# Altium schematic symbol library Connectors_Old.SchLib: 239 symbols (part 1 of 4)
Pins are listed as number, name and electrical type; pins without a type are passive.

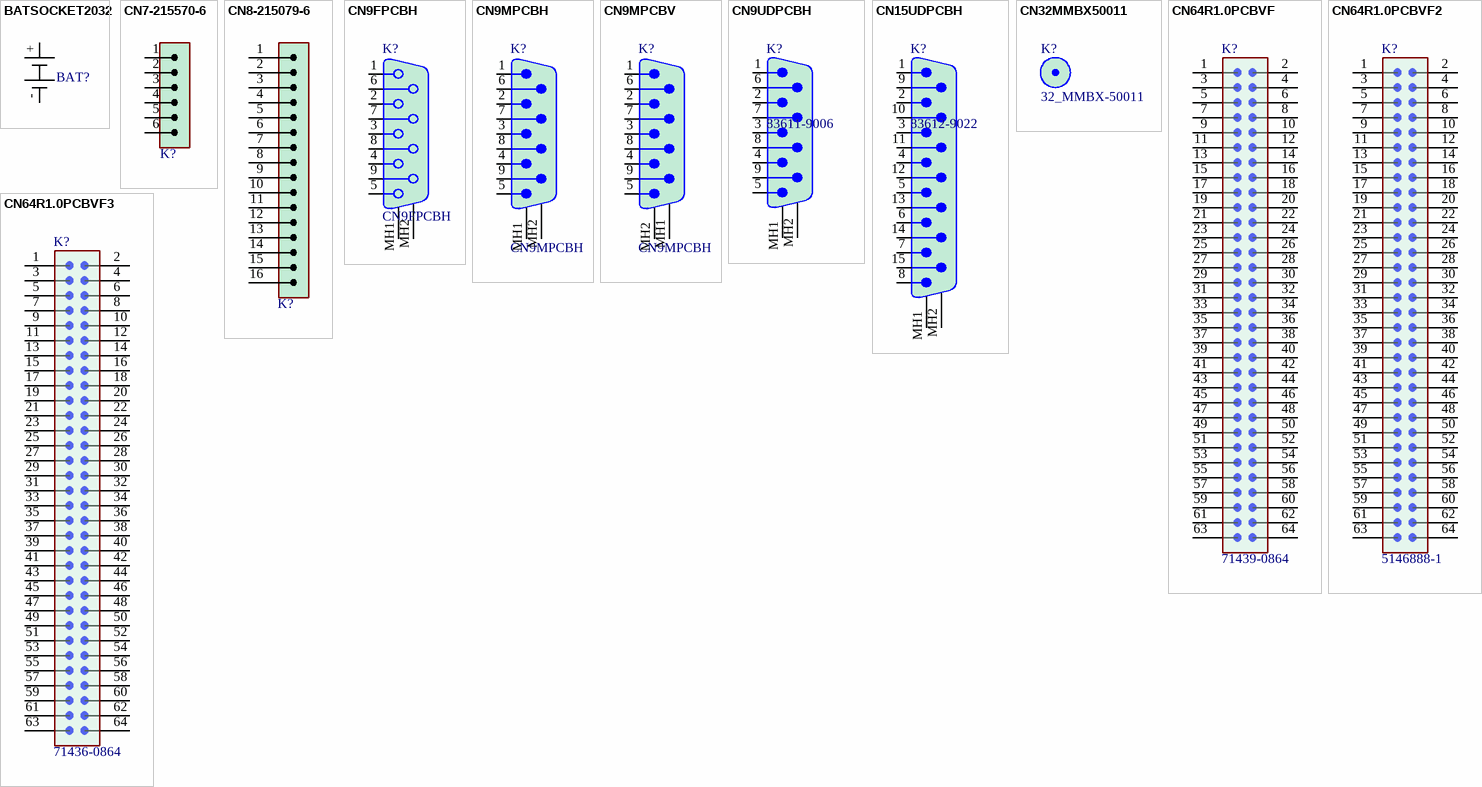
[diagram p0: symbols BATSOCKET2032 to CN64R1.0PCBVF3]

## BATSOCKET2032
designator BAT?, comment CR2032  (value not drawn)
Battery socket CR2032 3V lithium; Sort: 610; Tech: THDW; Price: 0
footprint BATHOLDER20321X
pins: +, -

## CN7-215570-6
designator K?, comment 7-215570-6  (value not drawn)
Micro Match 6pin female connector; Manufacturer: Tyco-AMP; Sort: 610; Tech: THDW; Package: Conn uMATCH 6pin; Manufacturer No: 7-215570-6; Price: 0
footprint CN7-215570-6 (AMP u Match 6pin vertical female)
pins: 1, 2, 3, 4, 5, 6

## CN8-215079-6
designator K?, comment 8-215079-6  (value not drawn)
Micro Match 16pin cable connector; Manufacturer: Tyco-AMP; Sort: 610; Tech: THDW; Package: Conn uMATCH 16pin; Manufacturer No: 8-215079-6; Price: 0
footprint CN8-215079-6 (AMP u Match 16pin vertical cable)
pins: 1, 2, 3, 4, 5, 6, 7, 8, 9, 10, 11, 12, 13, 14, 15, 16

## CN9FPCBH
designator K?
Sort: 610; Tech: THDW; Price: 0
footprint D9FPCBH1 (Dsub 9pin female PCB horizontal)
pins: 1, 2, 3, 4, 5, 6, 7, 8, 9, MH1, MH2

## CN9MPCBH
designator K?
Sort: 610; Tech: THDW; Price: 0
footprint D9MPCBH1 (Dsub 9pin male PCB horizontal)
pins: 1, 2, 3, 4, 5, 6, 7, 8, 9, MH1, MH2

## CN9MPCBV
designator K?, comment CN9MPCBH
Sort: 610; Tech: THDW; Price: 0
footprint D9MPCBV1 (Dsub 9pin male PCB vertical)
pins: 1, 2, 3, 4, 5, 6, 7, 8, 9, MH1, MH2

## CN9UDPCBH
designator K?, comment 83611-9006
Connector 9pin micro-D; Manufacturer: Molex; Sort: 610; Tech: THDW; Manufacturer No: 83611-9006; Price: 0
signal-integrity model Model Name (Model Description)
footprint CN9UDPCBH (Connector LXI Horizontal, THDM; 9 pin; R1.27 mm; Body 19.94 x 15.13 x 7.86 mm (LxWxH))
pins: 1, 2, 3, 4, 5, 6, 7, 8, 9, MH1, MH2

## CN15UDPCBH
designator K?, comment 83612-9022
Connector 15 pin micro-D; Manufacturer: Molex; Sort: 610; Tech: THDW; Manufacturer No: 83612-9022; Price: 0
signal-integrity model Model Name (Model Description)
footprint CN15UDPCBH (Connector LXI Horizontal, THDM; 9 pin; R1.27 mm; Body 19.94 x 15.13 x 7.86 mm (LxWxH))
pins: 1, 2, 3, 4, 5, 6, 7, 8, 9, 10, 11, 12, 13, 14, 15, MH1, MH2

## CN32MMBX50011
designator K?, comment 32_MMBX-50011
MMBX connector adaptor PCB vertical H7mm; Manufacturer: Huber+Suhner; Comment2: 7mm high; Sort: 610; Tech: SMD; Manufacturer No: 32_MMBX-50011; Package: CN MMBX PCB Vert; Price: 0

## CN64R1.0PCBVF
designator K?, comment 71439-0864
Connector 64 pin SMD R1.0mm female; Manufacturer: Molex; Sort: 610; Tech: SMDR; Manufacturer No: 71439-0864; Package: CN64pin SMD R1mm Vert; Price: 0
signal-integrity model Model Name (Model Description)
footprint CN64R1FV (71439-0864)
pins: 1, 2, 3, 4, 5, 6, 7, 8, 9, 10, 11, 12, 13, 14, 15, 16, 17, 18, 19, 20, 21, 22, 23, 24, 25, 26, 27, 28, 29, 30, 31, 32, 33, 34, 35, 36, 37, 38, 39, 40, 41, 42, 43, 44, 45, 46, 47, 48, 49, 50, 51, 52, 53, 54, 55, 56, 57, 58, 59, 60, 61, 62, 63, 64

## CN64R1.0PCBVF2
designator K?, comment 5146888-1
Connector 64 pin SMD R1.0mm male; Manufacturer: Tyco; Sort: 610; Tech: SMDR; Manufacturer No: 5146888-1; Package: CN64pin SMD R1mm Vert; Price: 0
signal-integrity model Model Name (Model Description)
footprint CN64R1MV (Connector 64 pin R1.0 pitch plug)
pins: 1, 2, 3, 4, 5, 6, 7, 8, 9, 10, 11, 12, 13, 14, 15, 16, 17, 18, 19, 20, 21, 22, 23, 24, 25, 26, 27, 28, 29, 30, 31, 32, 33, 34, 35, 36, 37, 38, 39, 40, 41, 42, 43, 44, 45, 46, 47, 48, 49, 50, 51, 52, 53, 54, 55, 56, 57, 58, 59, 60, 61, 62, 63, 64

## CN64R1.0PCBVF3
designator K?, comment 71436-0864
Connector 64 pin SMD R1.0mm male; Manufacturer: Molex; Sort: 610; Tech: SMDR; Manufacturer No: 71436-0864; Package: CN64pin SMD R1mm Vert; Price: 0
signal-integrity model Model Name (Model Description)
footprint CN64R1MV (Connector 64 pin R1.0 pitch plug)
pins: 1, 2, 3, 4, 5, 6, 7, 8, 9, 10, 11, 12, 13, 14, 15, 16, 17, 18, 19, 20, 21, 22, 23, 24, 25, 26, 27, 28, 29, 30, 31, 32, 33, 34, 35, 36, 37, 38, 39, 40, 41, 42, 43, 44, 45, 46, 47, 48, 49, 50, 51, 52, 53, 54, 55, 56, 57, 58, 59, 60, 61, 62, 63, 64

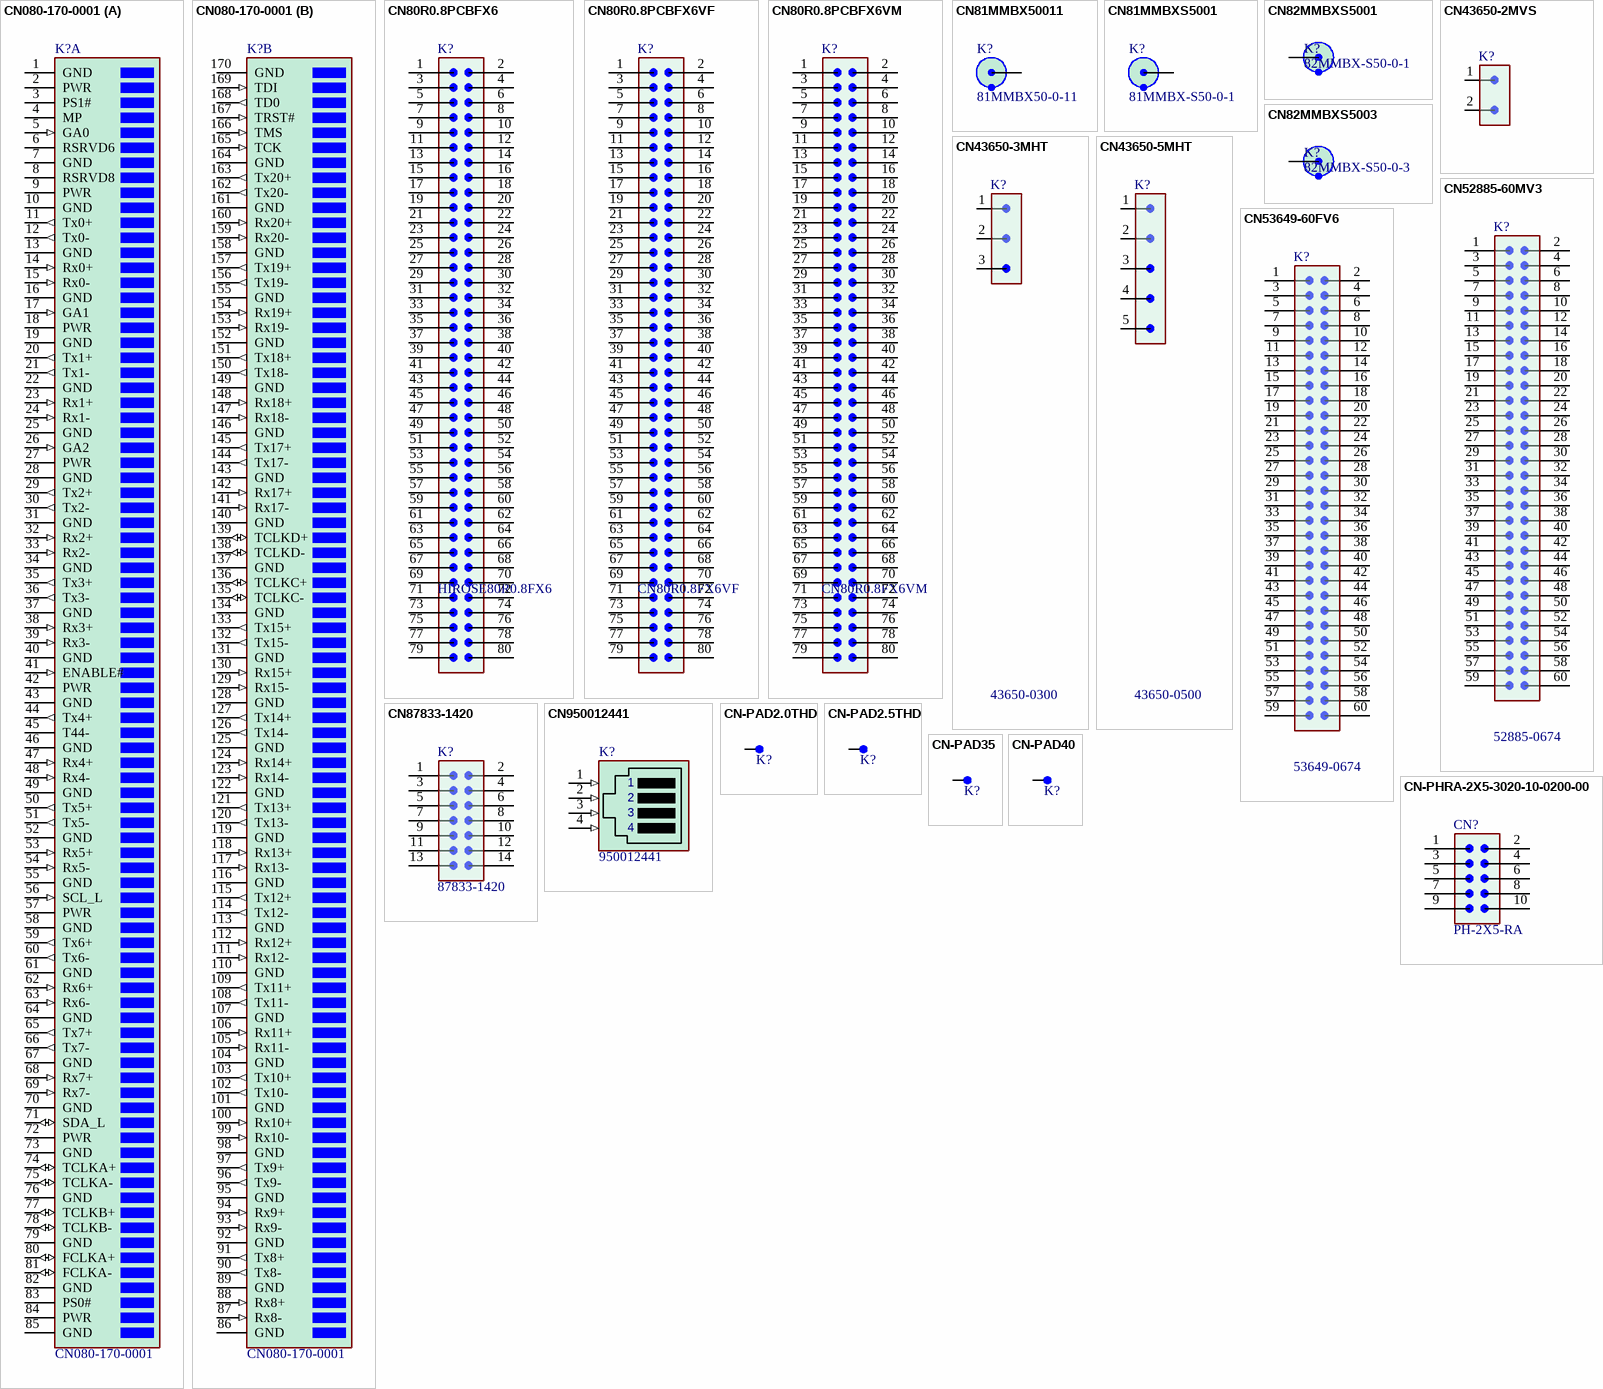
[diagram p1: symbols CN080-170-0001 to CN-PHRA-2X5-3020-10-0200-00]

## CN080-170-0001
designator K?
AMC Card connector 170 pin female vertical; Manufacturer: Yamaichi; Sort: 610; Tech: THDM; Manufacturer No: CN080-170-0001; Package: CNAMC170FV1; Price: 0
signal-integrity model Model Name (Model Description)
part A pins: 1 GND (power), 2 PWR (power) "12V", 3 PS1# "presence1", 4 MP (power) "3V3", 5 GA0 (in) "Gaddr0", 6 RSRVD6 "reserved", 7 GND (power), 8 RSRVD8 "reserved", 9 PWR (power) "12V", 10 GND (power), 11 Tx0+ (out) "out0", 12 Tx0- (out) "out0", 13 GND (power), 14 Rx0+ (in) "in0", 15 Rx0- (in) "in0", 16 GND (power), 17 GA1 (in) "Gaddr1", 18 PWR (power) "12V", 19 GND (power), 20 Tx1+ (out) "out1", 21 Tx1- (out) "out1", 22 GND (power), 23 Rx1+ (in) "in1", 24 Rx1- (in) "in1", 25 GND (power), 26 GA2 (in) "Gaddr2", 27 PWR (power) "12V", 28 GND (power), 29 Tx2+ (out) "out2", 30 Tx2- (out) "out2", 31 GND (power), 32 Rx2+ (in) "in2", 33 Rx2- (in) "in2", 34 GND (power), 35 Tx3+ (out) "out3", 36 Tx3- (out) "out3", 37 GND (power), 38 Rx3+ (in) "in3", 39 Rx3- (in) "in3", 40 GND (power), 41 ENABLE# (in) "AMC enable", 42 PWR (power) "12V", 43 GND (power), 44 Tx4+ (out) "out4", 45 T44- "out4", 46 GND (power), 47 Rx4+ (in) "in4", 48 Rx4- (in) "in4", 49 GND (power), 50 Tx5+ (out) "out5", 51 Tx5- (out) "out5", 52 GND (power), 53 Rx5+ (in) "in5", 54 Rx5- (in) "in5", 55 GND (power), 56 SCL_L (in) "IPMB clock", 57 PWR (power) "12V", 58 GND (power), 59 Tx6+ (out) "out6", 60 Tx6- (out) "out6", 61 GND (power), 62 Rx6+ (in) "in6", 63 Rx6- (in) "in6", 64 GND (power), 65 Tx7+ (out) "out7", 66 Tx7- (out) "out7", 67 GND (power), 68 Rx7+ (in) "in7", 69 Rx7- (in) "in7", 70 GND (power), 71 SDA_L (io) "IPMB data", 72 PWR (power) "12V", 73 GND (power), 74 TCLKA+ (io) "clk", 75 TCLKA- (io) "clk", 76 GND (power), 77 TCLKB+ (io) "clk", 78 TCLKB- (io) "clk", 79 GND (power), 80 FCLKA+ (io) "clk", 81 FCLKA- (io) "clk", 82 GND (power), 83 PS0# "presence0", 84 PWR (power) "12V", 85 GND (power)
part B pins: 86 GND (power), 87 Rx8- (in) "in8", 88 Rx8+ (in) "in8", 89 GND (power), 90 Tx8- (out) "out8", 91 Tx8+ (out) "out8", 92 GND (power), 93 Rx9- (in) "in9", 94 Rx9+ (in) "in9", 95 GND (power), 96 Tx9- (out) "out9", 97 Tx9+ (out) "out9", 98 GND (power), 99 Rx10- (in) "in10", 100 Rx10+ (in) "in10", 101 GND (power), 102 Tx10- (out) "out10", 103 Tx10+ (out) "out10", 104 GND (power), 105 Rx11- (in) "in11", 106 Rx11+ (in) "in11", 107 GND (power), 108 Tx11- (out) "out11", 109 Tx11+ (out) "out11", 110 GND (power), 111 Rx12- (in) "in12", 112 Rx12+ (in) "in12", 113 GND (power), 114 Tx12- (out) "out12", 115 Tx12+ (out) "out12", 116 GND (power), 117 Rx13- (in) "in13", 118 Rx13+ (in) "in13", 119 GND (power), 120 Tx13- (out) "out13", 121 Tx13+ (out) "out13", 122 GND (power), 123 Rx14- (in) "in14", 124 Rx14+ (in) "in14", 125 GND (power), 126 Tx14- (out) "out14", 127 Tx14+ (out) "out14", 128 GND (power), 129 Rx15- (in) "in15", 130 Rx15+ (in) "in15", 131 GND (power), 132 Tx15- (out) "out15", 133 Tx15+ (out) "out15", 134 GND (power), 135 TCLKC- (io) "clk", 136 TCLKC+ (io) "clk", 137 GND (power), 138 TCLKD- (io) "clk", 139 TCLKD+ (io) "clk", 140 GND (power), 141 Rx17- (in) "in17", 142 Rx17+ (in) "in17", 143 GND (power), 144 Tx17- (out) "out17", 145 Tx17+ (out) "out17", 146 GND (power), 147 Rx18- (in) "in18", 148 Rx18+ (in) "in18", 149 GND (power), 150 Tx18- (out) "out18", 151 Tx18+ (out) "out18", 152 GND (power), 153 Rx19- (in) "in19", 154 Rx19+ (in) "in19", 155 GND (power), 156 Tx19- (out) "out19", 157 Tx19+ (out) "out19", 158 GND (power), 159 Rx20- (in) "in20", 160 Rx20+ (in) "in20", 161 GND (power), 162 Tx20- (out) "out20", 163 Tx20+ (out) "out20", 164 GND (power), 165 TCK (in) "in", 166 TMS (in) "in", 167 TRST# (in) "in", 168 TD0 (out) "out", 169 TDI (in) "in", 170 GND (power)

## CN80R0.8PCBFX6
designator K?, comment HIROSE80R0.8FX6
Hirose Connector 80 pin SMD R0.8mm female; Sort: 610; Tech: SMDR; Manufacturer: HIROSE; Price: 0
signal-integrity model Model Name (Model Description)
footprint HiroseFX-6 (0.8mm Pitch Stacking Height 9mm Header-Stacking Connector)
pins: 1, 2, 3, 4, 5, 6, 7, 8, 9, 10, 11, 12, 13, 14, 15, 16, 17, 18, 19, 20, 21, 22, 23, 24, 25, 26, 27, 28, 29, 30, 31, 32, 33, 34, 35, 36, 37, 38, 39, 40, 41, 42, 43, 44, 45, 46, 47, 48, 49, 50, 51, 52, 53, 54, 55, 56, 57, 58, 59, 60, 61, 62, 63, 64, 65, 66, 67, 68, 69, 70, 71, 72, 73, 74, 75, 76, 77, 78, 79, 80

## CN80R0.8PCBFX6VF
designator K?, comment CN80R0.8FX6VF
Hirose Connector 80 pin SMD R0.8mm male; Manufacturer No: FX6- 80P-0.8SV2(21); Comment2: 0.8R  H6mm; Sort: 610; Tech: SMDR; Manufacturer: HIROSE; Price: 0
signal-integrity model Model Name (Model Description)
footprint CN80R0.8PCBFX6VF (0.8mm Pitch Stacking Height 6mm Header-Stacking Connector female)
pins: 1, 2, 3, 4, 5, 6, 7, 8, 9, 10, 11, 12, 13, 14, 15, 16, 17, 18, 19, 20, 21, 22, 23, 24, 25, 26, 27, 28, 29, 30, 31, 32, 33, 34, 35, 36, 37, 38, 39, 40, 41, 42, 43, 44, 45, 46, 47, 48, 49, 50, 51, 52, 53, 54, 55, 56, 57, 58, 59, 60, 61, 62, 63, 64, 65, 66, 67, 68, 69, 70, 71, 72, 73, 74, 75, 76, 77, 78, 79, 80

## CN80R0.8PCBFX6VM
designator K?, comment CN80R0.8FX6VM
Hirose Connector 80 pin SMD R0.8mm male; Manufacturer No: FX6- 80S-0.8SV2(21); Comment2: 0.8R  H6mm; Sort: 610; Tech: SMDR; Manufacturer: HIROSE; Price: 0
signal-integrity model Model Name (Model Description)
footprint CN80R0.8PCBFX6VM (0.8mm Pitch Stacking Height 6mm Receptacle-Stacking Connector male)
pins: 1, 2, 3, 4, 5, 6, 7, 8, 9, 10, 11, 12, 13, 14, 15, 16, 17, 18, 19, 20, 21, 22, 23, 24, 25, 26, 27, 28, 29, 30, 31, 32, 33, 34, 35, 36, 37, 38, 39, 40, 41, 42, 43, 44, 45, 46, 47, 48, 49, 50, 51, 52, 53, 54, 55, 56, 57, 58, 59, 60, 61, 62, 63, 64, 65, 66, 67, 68, 69, 70, 71, 72, 73, 74, 75, 76, 77, 78, 79, 80

## CN81MMBX50011
designator K?, comment 81MMBX50-0-11
MMBX connector PCB vertical R5mm; Manufacturer: Huber+Suhner; Manufacturer No: 81_MMBX-50-0-11; Comment2: 9mm above PCB; Sort: 610; Tech: THDW; Package: CN MMBX PCB Vert; Price: 0
footprint 81_MMBX-50-0-11
pins: 1, 2, 3, 4, 5

## CN81MMBXS5001
designator K?, comment 81MMBX-S50-0-1
MMBX connector PCB vertical R5mm; Manufacturer: Huber+Suhner; Manufacturer No: 81_MMBX-50-0-1; Comment2: 6.1mm above PCB; Sort: 610; Tech: SMD; Package: CN MMBX PCB Vert; Price: 0
footprint 81_MMBX-S50-0-1 (MMBX connector, PCB plug (male), SMD)
pins: 1, 2, 3, 4, 5

## CN82MMBXS5001
designator K?, comment 82MMBX-S50-0-1  (no BOM)
MMBX connector PCB vertical R5mm; Manufacturer: Huber+Suhner; Manufacturer No: 82_MMBX-50-0-1; Comment2: 9.0mm above PCB; Sort: 610; Tech: SMD; Package: CN MMBX PCB Vert; Price: 0
footprint 82_MMBX-S50-0-1 (MMBX connector, PCB plug (female), SMD)
pins: 1, 2, 3, 4, 5

## CN82MMBXS5003
designator K?, comment 82MMBX-S50-0-3  (no BOM)
MMBX connector PCB vertical R5mm; Manufacturer: Huber+Suhner; Manufacturer No: 82_MMBX-50-0-3; Comment2: 9.0mm above PCB; Sort: 610; Tech: SMD; Package: CN MMBX PCB Vert; Price: 0
footprint 82_MMBX-S50-0-3 (MMBX connector, PCB plug (male), SMD)
pins: 1, 2, 3, 4, 5

## CN43650-2MVS
designator K?, comment 43650-0225
Connector 2 pin SMD R3.0mm male vertical; Manufacturer: Molex, Digikey; Manufacturer No: 43650-0225, WM2638CT-ND; Comment2: 250V 5A 30cyc; Sort: 610; Tech: SMDR; Package: CN2pin SMD R3.0; Price: 0
signal-integrity model Model Name (Model Description)
footprint CN43650-0225 (CN 2 pin Male vertical SMD)
pins: 1, 2

## CN43650-3MHT
designator K?, comment 43650-0300
Connector 3 pin THT R3.0mm male horizontal; Manufacturer: Molex, Digikey; Manufacturer No: 43650-0300, WM1861-ND; Comment2: 250V 5A  30cyc; Sort: 610; Tech: SMDR; Package: CN3pin SMD R3.0 hor; Price: 1,4
signal-integrity model Model Name (Model Description)
footprint CN43650-0300 (CN 3 pin Male horizontal THT R3.0)
pins: 1, 2, 3
1 alternate drawing of the same symbol

## CN43650-5MHT
designator K?, comment 43650-0500
Connector 5 pin THT R3.0mm male horizontal; Manufacturer: Molex, Digikey; Manufacturer No: 43650-0500, WM1863-ND; Comment2: 250V 5A  30cyc; Sort: 610; Tech: SMDR; Package: CN5pin SMD R3.0 HOR; Price: 1,8
signal-integrity model Model Name (Model Description)
footprint CN43650-0500 (CN 5 pin Male horizontal THT R3.0)
pins: 1, 2, 3, 4, 5
1 alternate drawing of the same symbol

## CN52885-60MV3
designator K?, comment 52885-0674
Connector 60 pin SMD R0.635mm male vertical; Manufacturer: Molex; Sort: 610; Tech: SMDR; Manufacturer No: 52885-0674; Package: CN60pin SMD R0.635m Vert; Price: 0
signal-integrity model Model Name (Model Description)
footprint CN52885-60MV3 (Molex 52885 60pin vertical male 3mm R0.635mm)
pins: 1, 2, 3, 4, 5, 6, 7, 8, 9, 10, 11, 12, 13, 14, 15, 16, 17, 18, 19, 20, 21, 22, 23, 24, 25, 26, 27, 28, 29, 30, 31, 32, 33, 34, 35, 36, 37, 38, 39, 40, 41, 42, 43, 44, 45, 46, 47, 48, 49, 50, 51, 52, 53, 54, 55, 56, 57, 58, 59, 60

## CN53649-60FV6
designator K?, comment 53649-0674
Connector 60 pin SMD R0.635mm female vertical; Manufacturer: Molex; Sort: 610; Tech: SMDR; Manufacturer No: 53649-0674; Package: CN60pin SMD R0.635m Vert; Price: 0
signal-integrity model Model Name (Model Description)
footprint CN53649-60FV6 (Molex 53649 60pin vertical male H6mm R0.635mm)
pins: 1, 2, 3, 4, 5, 6, 7, 8, 9, 10, 11, 12, 13, 14, 15, 16, 17, 18, 19, 20, 21, 22, 23, 24, 25, 26, 27, 28, 29, 30, 31, 32, 33, 34, 35, 36, 37, 38, 39, 40, 41, 42, 43, 44, 45, 46, 47, 48, 49, 50, 51, 52, 53, 54, 55, 56, 57, 58, 59, 60

## CN87833-1420
designator K?, comment 87833-1420
Connector IDC 14 pin R2mm low profile horizontal; Manufacturer: Molex, Mouser; Manufacturer No: 87833-1420, 538-87833-1420; Sort: 610; Tech: THDW; Package: CN IDC14p HOR R2mm; Price: 2.2
signal-integrity model Model Name (Model Description)
footprint CN87833-1420 (Connector Male Header, Thru-Hole; 14 pin; Horizontal; R2mm; Body 16.65 x 6.4 x 6.3 mm (LxWxH))
pins: 1, 2, 3, 4, 5, 6, 7, 8, 9, 10, 11, 12, 13, 14
1 alternate drawing of the same symbol

## CN950012441
designator K?, comment 950012441
RJ45 modular jack included magnetics 10/100 Base-Tx; Manufacturer: Molex; Comment2: RJ11 4/4 pin; Sort: 610; Tech: THDW; Manufacturer No: 950012441; Price: 0
footprint CN95001-2441 (Molex 950012441)
pins: 1 (in), 2 (in), 3 (in), 4 (in)

## CN-PAD2.0THD
designator K?, comment PADTHDW  (value not drawn)  (no BOM)
Solder connector pin 2.0mm; Sort: 610; Tech: THDW; Price: 0
footprint CN-PAD2.0THD (Connector pad 2.0mm ThroughHole)
pins: MH1

## CN-PAD2.5THD
designator K?, comment PADTHDW  (value not drawn)  (no BOM)
Solder connector pin 2.5mm; Sort: 610; Tech: THDW; Price: 0
footprint CN-PAD2.5THD (Connector pad 2.5mm ThroughHole)
pins: MH1

## CN-PAD35
designator K?, comment PadSmd  (value not drawn)  (no BOM)
Solder connector pin 0.9mm; Sort: 610; Tech: THDW; Price: 0
footprint CN-PAD35 (Connector pad 0.9mm)
pins: 1

## CN-PAD40
designator K?, comment PadSmd  (value not drawn)  (graphical)
Solder connector pin 1.0mm; Sort: 610; Tech: THDW; Price: 0
footprint CN-PAD40 (Connector pad 1.0mm)
pins: 1

## CN-PHRA-2X5-3020-10-0200-00
designator CN?, comment PH-2X5-RA
PIN HEADER 2x5 R2.54mm Right-Angle; Manufacturer: CNC Tech; Manufacturer No: 3020-10-0200-00; Comment2: 350V 3A 20mR; Sort: 610; Tech: THDW; Package: HDR 2x5 vert; Price: 0.61; Supplier: Digi-Key; Supplier No: 1175-1615-ND
signal-integrity model Model Name (Model Description)
footprint PINHDR2X5RA (Pin header 2x5 pin R2.54mm)
pins: 1, 2, 3, 4, 5, 6, 7, 8, 9, 10
1 alternate drawing of the same symbol

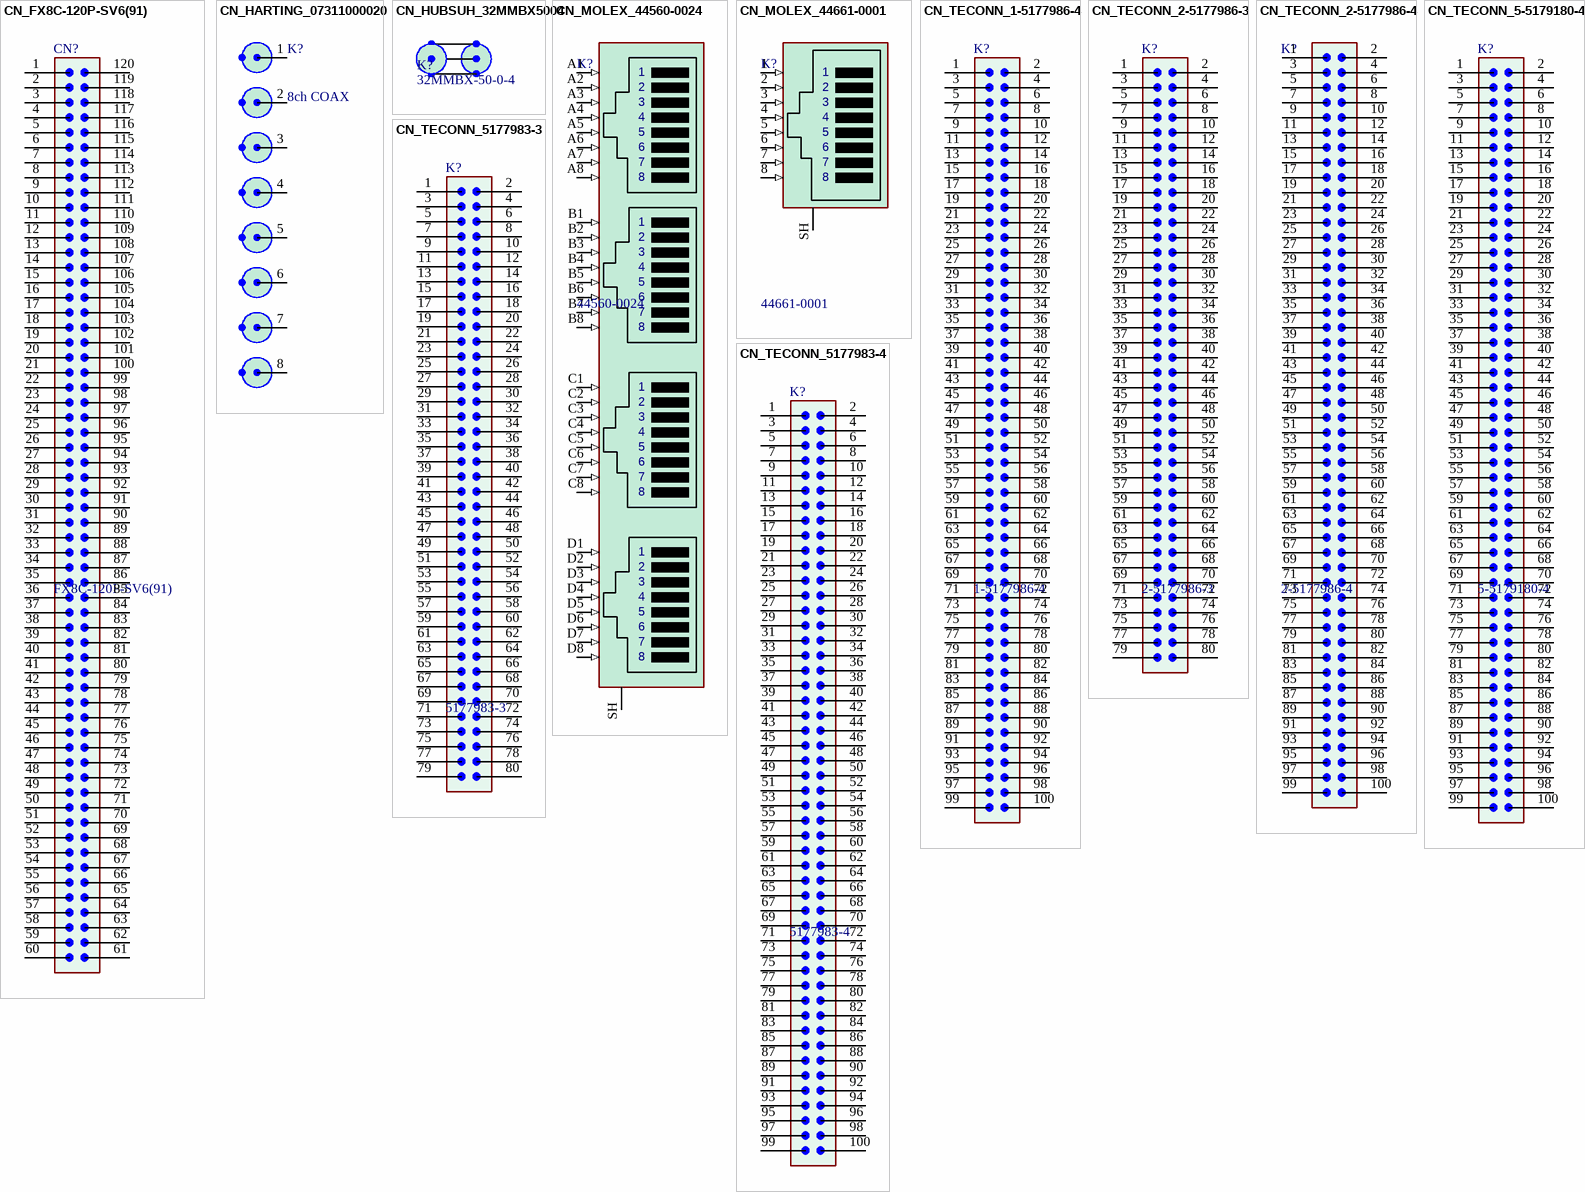
[diagram p2: symbols CN_FX8C-120P-SV6(91) to CN_TECONN_5177983-4]

## CN_FX8C-120P-SV6(91)
designator CN?, comment FX8C-120P-SV6(91)
Hirose Connector 120pin SMD R0.6mm male; Comment2: 120pin Header 10.45mm; Sort: 610; Tech: SMDR; Manufacturer: Hirose; Manufacturer No: FX8C-120P-SV6(91); Package: 120pin SMD; Price: 5.69; Supplier: Digi-Key; Supplier No: H11527-ND
signal-integrity model Model Name (Model Description)
footprint FX8C-120P-SV6(91) (Hirose 120pin Male Header SV6)
pins: 1, 2, 3, 4, 5, 6, 7, 8, 9, 10, 11, 12, 13, 14, 15, 16, 17, 18, 19, 20, 21, 22, 23, 24, 25, 26, 27, 28, 29, 30, 31, 32, 33, 34, 35, 36, 37, 38, 39, 40, 41, 42, 43, 44, 45, 46, 47, 48, 49, 50, 51, 52, 53, 54, 55, 56, 57, 58, 59, 60, 61, 62, 63, 64, 65, 66, 67, 68, 69, 70, 71, 72, 73, 74, 75, 76, 77, 78, 79, 80, 81, 82, 83, 84, 85, 86, 87, 88, 89, 90, 91, 92, 93, 94, 95, 96, 97, 98, 99, 100, 101, 102, 103, 104, 105, 106, 107, 108, 109, 110, 111, 112, 113, 114, 115, 116, 117, 118, 119, 120

## CN_HARTING_07311000020
designator K?, comment 8ch COAX
SMA connector PCB Edge horizontal Female 1.6mm; Manufacturer No: 0731 100 0020; Manufacturer: Harting; Sort: 610; Tech: THDM; Price: 0
signal-integrity model Model Name (Model Description)
footprint HARTING_07311000020 (Coax conn 8ch Harting 0731 100 0020)
pins: 1, 2, 3, 4, 5, 6, 7, 8, 9, 9, 9, 9, 9, 9, 9, 9

## CN_HUBSUH_32MMBX5004
designator K?, comment 32MMBX-50-0-4  (no BOM)
MMBX adapter  L=8mm matching height 10mm; Manufacturer: Huber+Suhner; Comment2: 10mm matching height adapter; Sort: 610; Tech: SMD; Manufacturer No: 32MMBX-50-0-4; Package: Adapter MMBX 10mm; Price: 0
footprint 32_MMBX-50-0-4 (MMBX adapter 8mm)

## CN_MOLEX_44560-0024
designator K?, comment 44560-0024
RJ45 4port modular low profile no led; Manufacturer No: 44560-0024,; Manufacturer: Molex; Comment2: CAT5e; Sort: 615; Tech: PFIT; Package: CN RJ45 8pin 4 port; Price: 14
footprint CN_MOLEX_44560-0024 (Connector RJ45 for AMC 8pin pressfit 15.75x16.3x13.97)
pins: A1 (in), A2 (in), A3 (in), A4 (in), A5 (in), A6 (in), A7 (in), A8 (in), B1 (in), B2 (in), B3 (in), B4 (in), B5 (in), B6 (in), B7 (in), B8 (in), C1 (in), C2 (in), C3 (in), C4 (in), C5 (in), C6 (in), C7 (in), C8 (in), D1 (in), D2 (in), D3 (in), D4 (in), D5 (in), D6 (in), D7 (in), D8 (in), SH SHIELD
1 alternate drawing of the same symbol
text: 1; 2; 3; 4; 5; 6; 7; 8

## CN_MOLEX_44661-0001
designator K?, comment 44661-0001
RJ45 1port modular low profile no led; Manufacturer No: 44661-0001,; Manufacturer: Molex; Comment2: CAT5e; Sort: 615; Tech: PFIT; Package: CN RJ45 8pin; Price: 5.4
footprint CN_MOLEX_44661-0001 (Connector RJ45 low profile)
pins: 1 (in), 2 (in), 3 (in), 4 (in), 5 (in), 6 (in), 7 (in), 8 (in), SH SHIELD
1 alternate drawing of the same symbol

## CN_TECONN_1-5177986-4
designator K?, comment 1-5177986-4
CN 100 pin SMD R0.8mm vert male; Manufacturer: TE Connectivity, Farnell; Comment2: 0.5A 100V 6, 10, 14, 18mm stack; Sort: 610; Tech: SMDR; Manufacturer No: 1-5177986-4; Package: CN 100p P0.8mm vert male; Price: 3.1
signal-integrity model Model Name (Model Description)
footprint CN_TECONN_1-5177986-4 (100pin 0.8mm Pitch Stacking Height 6.6mm Header-Stacking Connector male)
pins: 1, 2, 3, 4, 5, 6, 7, 8, 9, 10, 11, 12, 13, 14, 15, 16, 17, 18, 19, 20, 21, 22, 23, 24, 25, 26, 27, 28, 29, 30, 31, 32, 33, 34, 35, 36, 37, 38, 39, 40, 41, 42, 43, 44, 45, 46, 47, 48, 49, 50, 51, 52, 53, 54, 55, 56, 57, 58, 59, 60, 61, 62, 63, 64, 65, 66, 67, 68, 69, 70, 71, 72, 73, 74, 75, 76, 77, 78, 79, 80, 81, 82, 83, 84, 85, 86, 87, 88, 89, 90, 91, 92, 93, 94, 95, 96, 97, 98, 99, 100

## CN_TECONN_2-5177986-3
designator K?, comment 2-5177986-3
CN 80 pin SMD R0.8mm vert male; Manufacturer: TE Connectivity, Digikey; Manufacturer No: 2-5177986-3, A99210CT-ND; Comment2: 0.5A 100V 7, 11, 15, 19mm stack; Sort: 610; Tech: SMDR; Package: CN 80p P0.8mm vert male; Price: 5
signal-integrity model Model Name (Model Description)
footprint CN_TECONN_2-5177986-3 (0.8mm Pitch Stacking Height 6.6mm Header-Stacking Connector male)
pins: 1, 2, 3, 4, 5, 6, 7, 8, 9, 10, 11, 12, 13, 14, 15, 16, 17, 18, 19, 20, 21, 22, 23, 24, 25, 26, 27, 28, 29, 30, 31, 32, 33, 34, 35, 36, 37, 38, 39, 40, 41, 42, 43, 44, 45, 46, 47, 48, 49, 50, 51, 52, 53, 54, 55, 56, 57, 58, 59, 60, 61, 62, 63, 64, 65, 66, 67, 68, 69, 70, 71, 72, 73, 74, 75, 76, 77, 78, 79, 80

## CN_TECONN_2-5177986-4
designator K?, comment 2-5177986-4
CN 100 pin SMD R0.8mm vert male; Manufacturer: TE Connectivity, Digikey; Manufacturer No: 2-5177986-4, A99211CT-ND; Comment2: 0.5A 100V 7, 11, 15, 19mm stack; Sort: 610; Tech: SMDR; Package: CN 100p P0.8mm vert male; Price: 6
signal-integrity model Model Name (Model Description)
footprint CN_TECONN_2-5177986-4 (100pin 0.8mm Pitch Stacking Height 6.6mm Header-Stacking Connector male)
pins: 1, 2, 3, 4, 5, 6, 7, 8, 9, 10, 11, 12, 13, 14, 15, 16, 17, 18, 19, 20, 21, 22, 23, 24, 25, 26, 27, 28, 29, 30, 31, 32, 33, 34, 35, 36, 37, 38, 39, 40, 41, 42, 43, 44, 45, 46, 47, 48, 49, 50, 51, 52, 53, 54, 55, 56, 57, 58, 59, 60, 61, 62, 63, 64, 65, 66, 67, 68, 69, 70, 71, 72, 73, 74, 75, 76, 77, 78, 79, 80, 81, 82, 83, 84, 85, 86, 87, 88, 89, 90, 91, 92, 93, 94, 95, 96, 97, 98, 99, 100

## CN_TECONN_5-5179180-4
designator K?, comment 5-5179180-4
CN 100 pin SMD R0.8mm vert female; Manufacturer: TE Connectivity, Farnell; Comment2: 0.5A 100V  9, 10, 11, 12mm stack; Sort: 610; Tech: SMDR; Manufacturer No: 5-5179180-4; Package: CN 100p P0.8mm vert female; Price: 3.1
signal-integrity model Model Name (Model Description)
footprint CN_TECONN_5-5179180-4 (100pin 0.8mm Pitch Stacking Height 6mm Header-Stacking Connector female)
pins: 1, 2, 3, 4, 5, 6, 7, 8, 9, 10, 11, 12, 13, 14, 15, 16, 17, 18, 19, 20, 21, 22, 23, 24, 25, 26, 27, 28, 29, 30, 31, 32, 33, 34, 35, 36, 37, 38, 39, 40, 41, 42, 43, 44, 45, 46, 47, 48, 49, 50, 51, 52, 53, 54, 55, 56, 57, 58, 59, 60, 61, 62, 63, 64, 65, 66, 67, 68, 69, 70, 71, 72, 73, 74, 75, 76, 77, 78, 79, 80, 81, 82, 83, 84, 85, 86, 87, 88, 89, 90, 91, 92, 93, 94, 95, 96, 97, 98, 99, 100

## CN_TECONN_5177983-3
designator K?, comment 5177983-3
CN 80 pin SMD R0.8mm vert female; Manufacturer: TE Connectivity, Farnell; Manufacturer No: 5177983-3, 1098347; Comment2: 0.5A 100V 5, 6, 7, 8mm stack; Sort: 610; Tech: SMDR; Package: CN 80p P0.8mm vert female; Price: 2.9
signal-integrity model Model Name (Model Description)
footprint CN_TECONN_5177983-3 (0.8mm Pitch Stacking Height 6mm Header-Stacking Connector female)
pins: 1, 2, 3, 4, 5, 6, 7, 8, 9, 10, 11, 12, 13, 14, 15, 16, 17, 18, 19, 20, 21, 22, 23, 24, 25, 26, 27, 28, 29, 30, 31, 32, 33, 34, 35, 36, 37, 38, 39, 40, 41, 42, 43, 44, 45, 46, 47, 48, 49, 50, 51, 52, 53, 54, 55, 56, 57, 58, 59, 60, 61, 62, 63, 64, 65, 66, 67, 68, 69, 70, 71, 72, 73, 74, 75, 76, 77, 78, 79, 80

## CN_TECONN_5177983-4
designator K?, comment 5177983-4
CN 100 pin SMD R0.8mm vert female; Manufacturer: TE Connectivity, Farnell; Manufacturer No: 5177983-4, 1098348; Comment2: 0.5A 100V 5, 6, 7, 8mm stack; Sort: 610; Tech: SMDR; Package: CN 100p P0.8mm vert female; Price: 3.1
signal-integrity model Model Name (Model Description)
footprint CN_TECONN_5177983-4 (100pin 0.8mm Pitch Stacking Height 6mm Header-Stacking Connector female)
pins: 1, 2, 3, 4, 5, 6, 7, 8, 9, 10, 11, 12, 13, 14, 15, 16, 17, 18, 19, 20, 21, 22, 23, 24, 25, 26, 27, 28, 29, 30, 31, 32, 33, 34, 35, 36, 37, 38, 39, 40, 41, 42, 43, 44, 45, 46, 47, 48, 49, 50, 51, 52, 53, 54, 55, 56, 57, 58, 59, 60, 61, 62, 63, 64, 65, 66, 67, 68, 69, 70, 71, 72, 73, 74, 75, 76, 77, 78, 79, 80, 81, 82, 83, 84, 85, 86, 87, 88, 89, 90, 91, 92, 93, 94, 95, 96, 97, 98, 99, 100

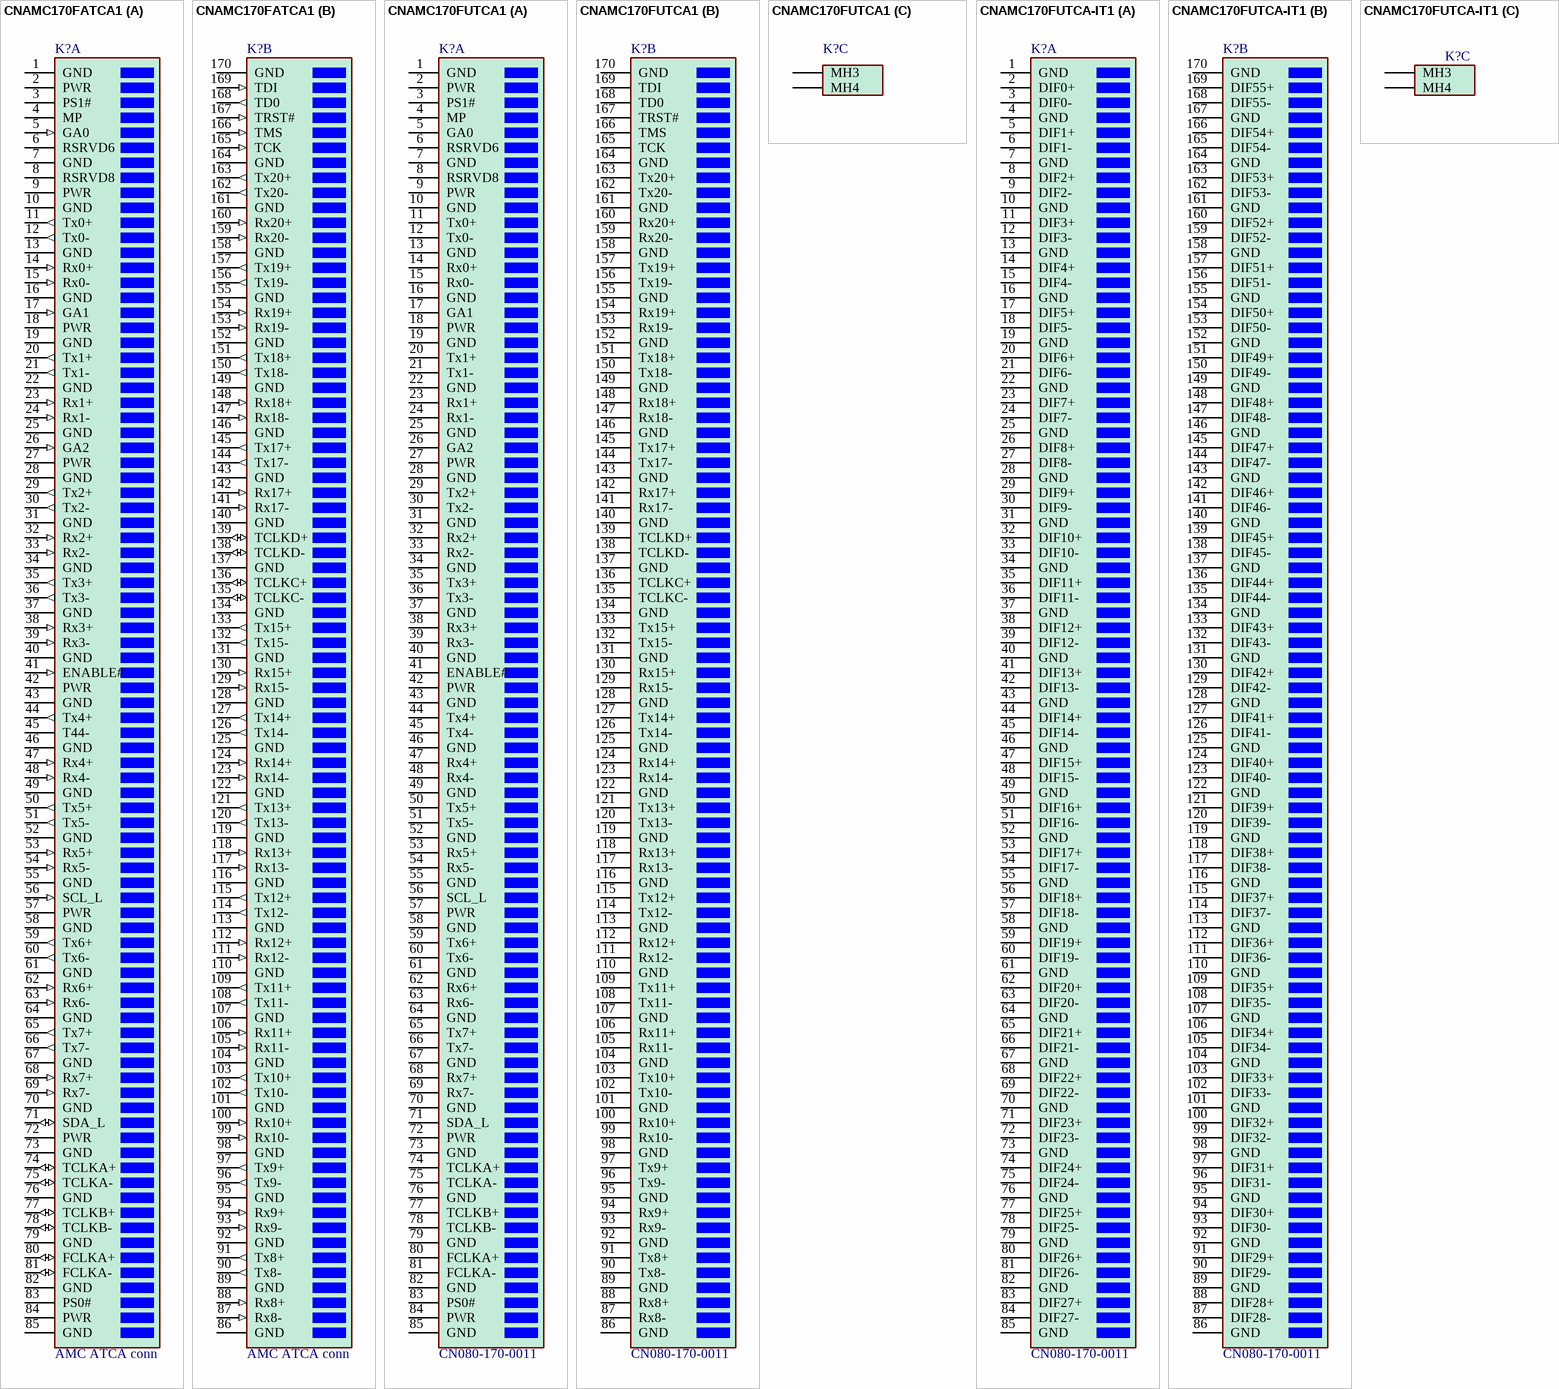
[diagram p3: symbols CNAMC170FATCA1 to CNAMC170FUTCA-IT1]

## CNAMC170FATCA1
designator K?, comment AMC ATCA conn
AMC Card ATCA connector 170 pin; Manufacturer: Yamaichi; Manufacturer No: CN074-170-005; Price: 0
signal-integrity model Model Name (Model Description)
footprint CNAMC170FUTCA (AMC uTCA 170 pin vertical)
footprint CNAMC170FATCA (AMC ATCA 170 pin horizontal)
part A pins: 1 GND (power), 2 PWR (power) "12V", 3 PS1# "presence1", 4 MP (power) "3V3", 5 GA0 (in) "Gaddr0", 6 RSRVD6 "reserved", 7 GND (power), 8 RSRVD8 "reserved", 9 PWR (power) "12V", 10 GND (power), 11 Tx0+ (out) "out0", 12 Tx0- (out) "out0", 13 GND (power), 14 Rx0+ (in) "in0", 15 Rx0- (in) "in0", 16 GND (power), 17 GA1 (in) "Gaddr1", 18 PWR (power) "12V", 19 GND (power), 20 Tx1+ (out) "out1", 21 Tx1- (out) "out1", 22 GND (power), 23 Rx1+ (in) "in1", 24 Rx1- (in) "in1", 25 GND (power), 26 GA2 (in) "Gaddr2", 27 PWR (power) "12V", 28 GND (power), 29 Tx2+ (out) "out2", 30 Tx2- (out) "out2", 31 GND (power), 32 Rx2+ (in) "in2", 33 Rx2- (in) "in2", 34 GND (power), 35 Tx3+ (out) "out3", 36 Tx3- (out) "out3", 37 GND (power), 38 Rx3+ (in) "in3", 39 Rx3- (in) "in3", 40 GND (power), 41 ENABLE# (in) "AMC enable", 42 PWR (power) "12V", 43 GND (power), 44 Tx4+ (out) "out4", 45 T44- "out4", 46 GND (power), 47 Rx4+ (in) "in4", 48 Rx4- (in) "in4", 49 GND (power), 50 Tx5+ (out) "out5", 51 Tx5- (out) "out5", 52 GND (power), 53 Rx5+ (in) "in5", 54 Rx5- (in) "in5", 55 GND (power), 56 SCL_L (in) "IPMB clock", 57 PWR (power) "12V", 58 GND (power), 59 Tx6+ (out) "out6", 60 Tx6- (out) "out6", 61 GND (power), 62 Rx6+ (in) "in6", 63 Rx6- (in) "in6", 64 GND (power), 65 Tx7+ (out) "out7", 66 Tx7- (out) "out7", 67 GND (power), 68 Rx7+ (in) "in7", 69 Rx7- (in) "in7", 70 GND (power), 71 SDA_L (io) "IPMB data", 72 PWR (power) "12V", 73 GND (power), 74 TCLKA+ (io) "clk", 75 TCLKA- (io) "clk", 76 GND (power), 77 TCLKB+ (io) "clk", 78 TCLKB- (io) "clk", 79 GND (power), 80 FCLKA+ (io) "clk", 81 FCLKA- (io) "clk", 82 GND (power), 83 PS0# "presence0", 84 PWR (power) "12V", 85 GND (power)
part B pins: 86 GND (power), 87 Rx8- (in) "in8", 88 Rx8+ (in) "in8", 89 GND (power), 90 Tx8- (out) "out8", 91 Tx8+ (out) "out8", 92 GND (power), 93 Rx9- (in) "in9", 94 Rx9+ (in) "in9", 95 GND (power), 96 Tx9- (out) "out9", 97 Tx9+ (out) "out9", 98 GND (power), 99 Rx10- (in) "in10", 100 Rx10+ (in) "in10", 101 GND (power), 102 Tx10- (out) "out10", 103 Tx10+ (out) "out10", 104 GND (power), 105 Rx11- (in) "in11", 106 Rx11+ (in) "in11", 107 GND (power), 108 Tx11- (out) "out11", 109 Tx11+ (out) "out11", 110 GND (power), 111 Rx12- (in) "in12", 112 Rx12+ (in) "in12", 113 GND (power), 114 Tx12- (out) "out12", 115 Tx12+ (out) "out12", 116 GND (power), 117 Rx13- (in) "in13", 118 Rx13+ (in) "in13", 119 GND (power), 120 Tx13- (out) "out13", 121 Tx13+ (out) "out13", 122 GND (power), 123 Rx14- (in) "in14", 124 Rx14+ (in) "in14", 125 GND (power), 126 Tx14- (out) "out14", 127 Tx14+ (out) "out14", 128 GND (power), 129 Rx15- (in) "in15", 130 Rx15+ (in) "in15", 131 GND (power), 132 Tx15- (out) "out15", 133 Tx15+ (out) "out15", 134 GND (power), 135 TCLKC- (io) "clk", 136 TCLKC+ (io) "clk", 137 GND (power), 138 TCLKD- (io) "clk", 139 TCLKD+ (io) "clk", 140 GND (power), 141 Rx17- (in) "in17", 142 Rx17+ (in) "in17", 143 GND (power), 144 Tx17- (out) "out17", 145 Tx17+ (out) "out17", 146 GND (power), 147 Rx18- (in) "in18", 148 Rx18+ (in) "in18", 149 GND (power), 150 Tx18- (out) "out18", 151 Tx18+ (out) "out18", 152 GND (power), 153 Rx19- (in) "in19", 154 Rx19+ (in) "in19", 155 GND (power), 156 Tx19- (out) "out19", 157 Tx19+ (out) "out19", 158 GND (power), 159 Rx20- (in) "in20", 160 Rx20+ (in) "in20", 161 GND (power), 162 Tx20- (out) "out20", 163 Tx20+ (out) "out20", 164 GND (power), 165 TCK (in) "in", 166 TMS (in) "in", 167 TRST# (in) "in", 168 TD0 (out) "out", 169 TDI (in) "in", 170 GND (power)

## CNAMC170FUTCA1
designator K?, comment CN080-170-0011
AMC Card uTCA connector 170 pin; Manufacturer: Yamaichi; Comment2: For 3-5mm backplane; Sort: 610; Tech: MECH; Manufacturer No: CN080-170-0011; Package: AMC uTCA Conn. vert.; Price: 0
signal-integrity model Model Name (Model Description)
footprint CNAMC170FUTCA (AMC uTCA 170 pin vertical)
part A pins: 1 GND (power), 2 PWR (power) "12V", 3 PS1# "presence1", 4 MP (power) "3V3", 5 GA0 "Gaddr0", 6 RSRVD6 "reserved", 7 GND (power), 8 RSRVD8 "reserved", 9 PWR (power) "12V", 10 GND (power), 11 Tx0+ "out0", 12 Tx0- "out0", 13 GND (power), 14 Rx0+ "in0", 15 Rx0- "in0", 16 GND (power), 17 GA1 "Gaddr1", 18 PWR (power) "12V", 19 GND (power), 20 Tx1+ "out1", 21 Tx1- "out1", 22 GND (power), 23 Rx1+ "in1", 24 Rx1- "in1", 25 GND (power), 26 GA2 "Gaddr2", 27 PWR (power) "12V", 28 GND (power), 29 Tx2+ "out2", 30 Tx2- "out2", 31 GND (power), 32 Rx2+ "in2", 33 Rx2- "in2", 34 GND (power), 35 Tx3+ "out3", 36 Tx3- "out3", 37 GND (power), 38 Rx3+ "in3", 39 Rx3- "in3", 40 GND (power), 41 ENABLE# "AMC enable", 42 PWR (power) "12V", 43 GND (power), 44 Tx4+ "out4", 45 Tx4- "out4", 46 GND (power), 47 Rx4+ "in4", 48 Rx4- "in4", 49 GND (power), 50 Tx5+ "out5", 51 Tx5- "out5", 52 GND (power), 53 Rx5+ "in5", 54 Rx5- "in5", 55 GND (power), 56 SCL_L "IPMB clock", 57 PWR (power) "12V", 58 GND (power), 59 Tx6+ "out6", 60 Tx6- "out6", 61 GND (power), 62 Rx6+ "in6", 63 Rx6- "in6", 64 GND (power), 65 Tx7+ "out7", 66 Tx7- "out7", 67 GND (power), 68 Rx7+ "in7", 69 Rx7- "in7", 70 GND (power), 71 SDA_L "IPMB data", 72 PWR (power) "12V", 73 GND (power), 74 TCLKA+ "clk", 75 TCLKA- "clk", 76 GND (power), 77 TCLKB+ "clk", 78 TCLKB- "clk", 79 GND (power), 80 FCLKA+ "clk", 81 FCLKA- "clk", 82 GND (power), 83 PS0# "presence0", 84 PWR (power) "12V", 85 GND (power)
part B pins: 86 GND (power), 87 Rx8- "in8", 88 Rx8+ "in8", 89 GND (power), 90 Tx8- "out8", 91 Tx8+ "out8", 92 GND (power), 93 Rx9- "in9", 94 Rx9+ "in9", 95 GND (power), 96 Tx9- "out9", 97 Tx9+ "out9", 98 GND (power), 99 Rx10- "in10", 100 Rx10+ "in10", 101 GND (power), 102 Tx10- "out10", 103 Tx10+ "out10", 104 GND (power), 105 Rx11- "in11", 106 Rx11+ "in11", 107 GND (power), 108 Tx11- "out11", 109 Tx11+ "out11", 110 GND (power), 111 Rx12- "in12", 112 Rx12+ "in12", 113 GND (power), 114 Tx12- "out12", 115 Tx12+ "out12", 116 GND (power), 117 Rx13- "in13", 118 Rx13+ "in13", 119 GND (power), 120 Tx13- "out13", 121 Tx13+ "out13", 122 GND (power), 123 Rx14- "in14", 124 Rx14+ "in14", 125 GND (power), 126 Tx14- "out14", 127 Tx14+ "out14", 128 GND (power), 129 Rx15- "in15", 130 Rx15+ "in15", 131 GND (power), 132 Tx15- "out15", 133 Tx15+ "out15", 134 GND (power), 135 TCLKC- "clk", 136 TCLKC+ "clk", 137 GND (power), 138 TCLKD- "clk", 139 TCLKD+ "clk", 140 GND (power), 141 Rx17- "in17", 142 Rx17+ "in17", 143 GND (power), 144 Tx17- "out17", 145 Tx17+ "out17", 146 GND (power), 147 Rx18- "in18", 148 Rx18+ "in18", 149 GND (power), 150 Tx18- "out18", 151 Tx18+ "out18", 152 GND (power), 153 Rx19- "in19", 154 Rx19+ "in19", 155 GND (power), 156 Tx19- "out19", 157 Tx19+ "out19", 158 GND (power), 159 Rx20- "in20", 160 Rx20+ "in20", 161 GND (power), 162 Tx20- "out20", 163 Tx20+ "out20", 164 GND (power), 165 TCK "in", 166 TMS "in", 167 TRST# "in", 168 TD0 "out", 169 TDI "in", 170 GND (power)
part C pins: MH3, MH4

## CNAMC170FUTCA-IT1
designator K?, comment CN080-170-0011
AMC Card uTCA connector 170 pin; Manufacturer: Yamaichi; Comment2: For 3-5mm backplane; Sort: 610; Tech: MECH; Manufacturer No: CN080-170-0011; Package: AMC uTCA Conn. vert.; Price: 0
signal-integrity model Model Name (Model Description)
footprint CNAMC170FUTCA (AMC uTCA 170 pin vertical)
part A pins: 1 GND (power), 2 DIF0+, 3 DIF0-, 4 GND (power), 5 DIF1+, 6 DIF1-, 7 GND (power), 8 DIF2+, 9 DIF2-, 10 GND (power), 11 DIF3+, 12 DIF3-, 13 GND (power), 14 DIF4+, 15 DIF4-, 16 GND (power), 17 DIF5+, 18 DIF5-, 19 GND (power), 20 DIF6+, 21 DIF6-, 22 GND (power), 23 DIF7+, 24 DIF7-, 25 GND (power), 26 DIF8+, 27 DIF8-, 28 GND (power), 29 DIF9+, 30 DIF9-, 31 GND (power), 32 DIF10+, 33 DIF10-, 34 GND (power), 35 DIF11+, 36 DIF11-, 37 GND (power), 38 DIF12+, 39 DIF12-, 40 GND (power), 41 DIF13+, 42 DIF13-, 43 GND (power), 44 DIF14+, 45 DIF14-, 46 GND (power), 47 DIF15+, 48 DIF15-, 49 GND (power), 50 DIF16+, 51 DIF16-, 52 GND (power), 53 DIF17+, 54 DIF17-, 55 GND (power), 56 DIF18+, 57 DIF18-, 58 GND (power), 59 DIF19+, 60 DIF19-, 61 GND (power), 62 DIF20+, 63 DIF20-, 64 GND (power), 65 DIF21+, 66 DIF21-, 67 GND (power), 68 DIF22+, 69 DIF22-, 70 GND (power), 71 DIF23+, 72 DIF23-, 73 GND (power), 74 DIF24+, 75 DIF24-, 76 GND (power), 77 DIF25+, 78 DIF25-, 79 GND (power), 80 DIF26+, 81 DIF26-, 82 GND (power), 83 DIF27+, 84 DIF27-, 85 GND (power)
part B pins: 86 GND (power), 87 DIF28-, 88 DIF28+, 89 GND (power), 90 DIF29-, 91 DIF29+, 92 GND (power), 93 DIF30-, 94 DIF30+, 95 GND (power), 96 DIF31-, 97 DIF31+, 98 GND (power), 99 DIF32-, 100 DIF32+, 101 GND (power), 102 DIF33-, 103 DIF33+, 104 GND (power), 105 DIF34-, 106 DIF34+, 107 GND (power), 108 DIF35-, 109 DIF35+, 110 GND (power), 111 DIF36-, 112 DIF36+, 113 GND (power), 114 DIF37-, 115 DIF37+, 116 GND (power), 117 DIF38-, 118 DIF38+, 119 GND (power), 120 DIF39-, 121 DIF39+, 122 GND (power), 123 DIF40-, 124 DIF40+, 125 GND (power), 126 DIF41-, 127 DIF41+, 128 GND (power), 129 DIF42-, 130 DIF42+, 131 GND (power), 132 DIF43-, 133 DIF43+, 134 GND (power), 135 DIF44-, 136 DIF44+, 137 GND (power), 138 DIF45-, 139 DIF45+, 140 GND (power), 141 DIF46-, 142 DIF46+, 143 GND (power), 144 DIF47-, 145 DIF47+, 146 GND (power), 147 DIF48-, 148 DIF48+, 149 GND (power), 150 DIF49-, 151 DIF49+, 152 GND (power), 153 DIF50-, 154 DIF50+, 155 GND (power), 156 DIF51-, 157 DIF51+, 158 GND (power), 159 DIF52-, 160 DIF52+, 161 GND (power), 162 DIF53-, 163 DIF53+, 164 GND (power), 165 DIF54-, 166 DIF54+, 167 GND (power), 168 DIF55-, 169 DIF55+, 170 GND (power)
part C pins: MH3, MH4

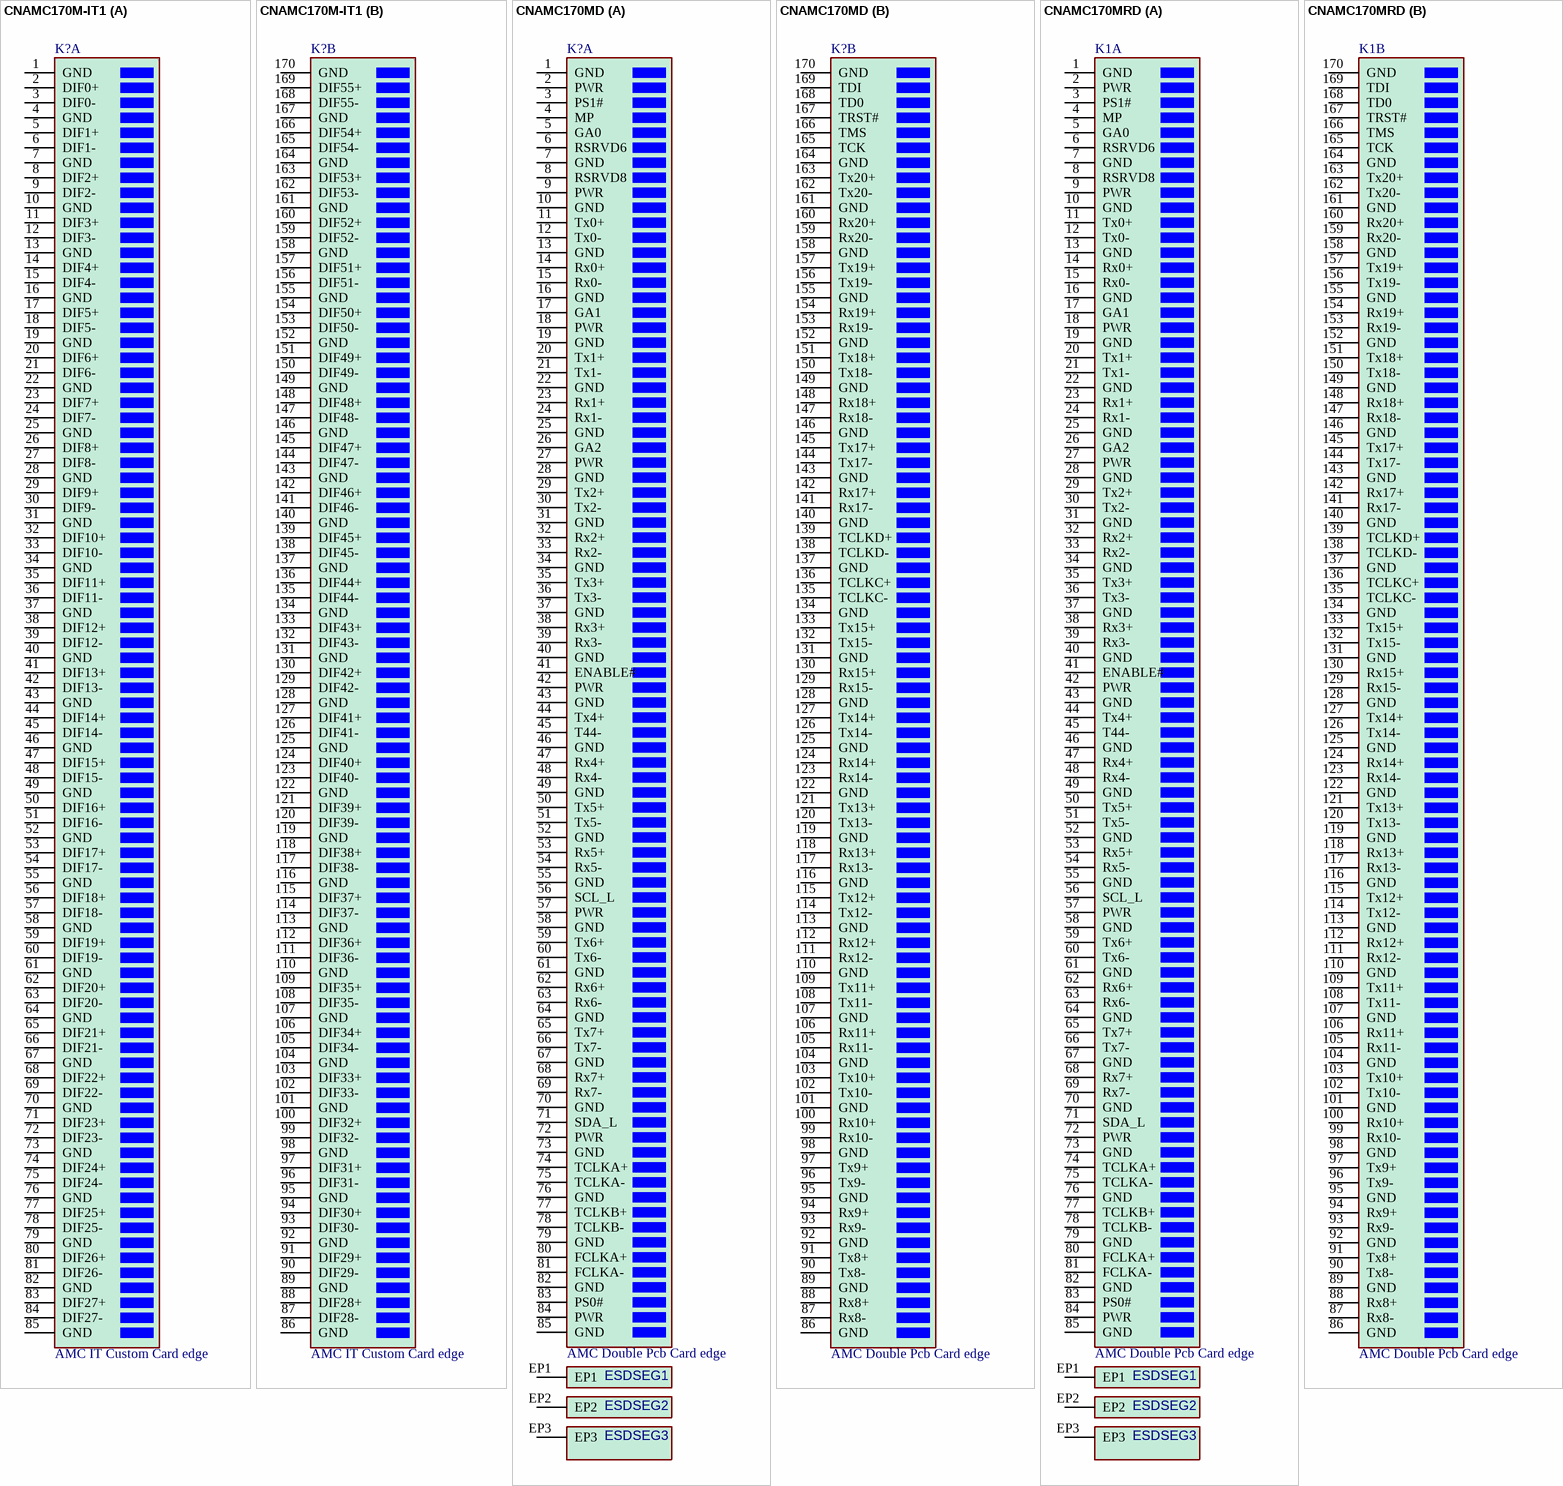
[diagram p4: symbols CNAMC170M-IT1 to CNAMC170MRD]

## CNAMC170M-IT1
designator K?, comment AMC IT Custom Card edge  (no BOM)
AMC IT custom card edge connector 170 pin; Comment2: Custom I_tech; Price: 0
signal-integrity model Model Name (Model Description)
footprint CNAMCEDGE-IT1 (AMC edge connector IT custom)
part A pins: 1 GND (power), 2 DIF0+, 3 DIF0-, 4 GND (power), 5 DIF1+, 6 DIF1-, 7 GND (power), 8 DIF2+, 9 DIF2-, 10 GND (power), 11 DIF3+, 12 DIF3-, 13 GND (power), 14 DIF4+, 15 DIF4-, 16 GND (power), 17 DIF5+, 18 DIF5-, 19 GND (power), 20 DIF6+, 21 DIF6-, 22 GND (power), 23 DIF7+, 24 DIF7-, 25 GND (power), 26 DIF8+, 27 DIF8-, 28 GND (power), 29 DIF9+, 30 DIF9-, 31 GND (power), 32 DIF10+, 33 DIF10-, 34 GND (power), 35 DIF11+, 36 DIF11-, 37 GND (power), 38 DIF12+, 39 DIF12-, 40 GND (power), 41 DIF13+, 42 DIF13-, 43 GND (power), 44 DIF14+, 45 DIF14-, 46 GND (power), 47 DIF15+, 48 DIF15-, 49 GND (power), 50 DIF16+, 51 DIF16-, 52 GND (power), 53 DIF17+, 54 DIF17-, 55 GND (power), 56 DIF18+, 57 DIF18-, 58 GND (power), 59 DIF19+, 60 DIF19-, 61 GND (power), 62 DIF20+, 63 DIF20-, 64 GND (power), 65 DIF21+, 66 DIF21-, 67 GND (power), 68 DIF22+, 69 DIF22-, 70 GND (power), 71 DIF23+, 72 DIF23-, 73 GND (power), 74 DIF24+, 75 DIF24-, 76 GND (power), 77 DIF25+, 78 DIF25-, 79 GND (power), 80 DIF26+, 81 DIF26-, 82 GND (power), 83 DIF27+, 84 DIF27-, 85 GND (power)
part B pins: 86 GND (power), 87 DIF28-, 88 DIF28+, 89 GND (power), 90 DIF29-, 91 DIF29+, 92 GND (power), 93 DIF30-, 94 DIF30+, 95 GND (power), 96 DIF31-, 97 DIF31+, 98 GND (power), 99 DIF32-, 100 DIF32+, 101 GND (power), 102 DIF33-, 103 DIF33+, 104 GND (power), 105 DIF34-, 106 DIF34+, 107 GND (power), 108 DIF35-, 109 DIF35+, 110 GND (power), 111 DIF36-, 112 DIF36+, 113 GND (power), 114 DIF37-, 115 DIF37+, 116 GND (power), 117 DIF38-, 118 DIF38+, 119 GND (power), 120 DIF39-, 121 DIF39+, 122 GND (power), 123 DIF40-, 124 DIF40+, 125 GND (power), 126 DIF41-, 127 DIF41+, 128 GND (power), 129 DIF42-, 130 DIF42+, 131 GND (power), 132 DIF43-, 133 DIF43+, 134 GND (power), 135 DIF44-, 136 DIF44+, 137 GND (power), 138 DIF45-, 139 DIF45+, 140 GND (power), 141 DIF46-, 142 DIF46+, 143 GND (power), 144 DIF47-, 145 DIF47+, 146 GND (power), 147 DIF48-, 148 DIF48+, 149 GND (power), 150 DIF49-, 151 DIF49+, 152 GND (power), 153 DIF50-, 154 DIF50+, 155 GND (power), 156 DIF51-, 157 DIF51+, 158 GND (power), 159 DIF52-, 160 DIF52+, 161 GND (power), 162 DIF53-, 163 DIF53+, 164 GND (power), 165 DIF54-, 166 DIF54+, 167 GND (power), 168 DIF55-, 169 DIF55+, 170 GND (power)

## CNAMC170MD
designator K?, comment AMC Double Pcb Card edge  (no BOM)
AMC Double Card edge connector 170 pin; Price: 0
signal-integrity model Model Name (Model Description)
footprint CNAMCEDGED1 (AMC double edge connector standard)
part A pins: 1 GND (power), 2 PWR (power) "12V", 3 PS1# "presence1", 4 MP (power) "3V3", 5 GA0 "Gaddr0", 6 RSRVD6 "reserved", 7 GND (power), 8 RSRVD8 "reserved", 9 PWR (power) "12V", 10 GND (power), 11 Tx0+ "out0", 12 Tx0- "out0", 13 GND (power), 14 Rx0+ "in0", 15 Rx0- "in0", 16 GND (power), 17 GA1 "Gaddr1", 18 PWR (power) "12V", 19 GND (power), 20 Tx1+ "out1", 21 Tx1- "out1", 22 GND (power), 23 Rx1+ "in1", 24 Rx1- "in1", 25 GND (power), 26 GA2 "Gaddr2", 27 PWR (power) "12V", 28 GND (power), 29 Tx2+ "out2", 30 Tx2- "out2", 31 GND (power), 32 Rx2+ "in2", 33 Rx2- "in2", 34 GND (power), 35 Tx3+ "out3", 36 Tx3- "out3", 37 GND (power), 38 Rx3+ "in3", 39 Rx3- "in3", 40 GND (power), 41 ENABLE# "AMC enable", 42 PWR (power) "12V", 43 GND (power), 44 Tx4+ "out4", 45 T44- "out4", 46 GND (power), 47 Rx4+ "in4", 48 Rx4- "in4", 49 GND (power), 50 Tx5+ "out5", 51 Tx5- "out5", 52 GND (power), 53 Rx5+ "in5", 54 Rx5- "in5", 55 GND (power), 56 SCL_L "IPMB clock", 57 PWR (power) "12V", 58 GND (power), 59 Tx6+ "out6", 60 Tx6- "out6", 61 GND (power), 62 Rx6+ "in6", 63 Rx6- "in6", 64 GND (power), 65 Tx7+ "out7", 66 Tx7- "out7", 67 GND (power), 68 Rx7+ "in7", 69 Rx7- "in7", 70 GND (power), 71 SDA_L "IPMB data", 72 PWR (power) "12V", 73 GND (power), 74 TCLKA+ "clk", 75 TCLKA- "clk", 76 GND (power), 77 TCLKB+ "clk", 78 TCLKB- "clk", 79 GND (power), 80 FCLKA+ "clk", 81 FCLKA- "clk", 82 GND (power), 83 PS0# "presence0", 84 PWR (power) "12V", 85 GND (power), EP1, EP2, EP3, MH1 hidden
part B pins: 86 GND (power), 87 Rx8- "in8", 88 Rx8+ "in8", 89 GND (power), 90 Tx8- "out8", 91 Tx8+ "out8", 92 GND (power), 93 Rx9- "in9", 94 Rx9+ "in9", 95 GND (power), 96 Tx9- "out9", 97 Tx9+ "out9", 98 GND (power), 99 Rx10- "in10", 100 Rx10+ "in10", 101 GND (power), 102 Tx10- "out10", 103 Tx10+ "out10", 104 GND (power), 105 Rx11- "in11", 106 Rx11+ "in11", 107 GND (power), 108 Tx11- "out11", 109 Tx11+ "out11", 110 GND (power), 111 Rx12- "in12", 112 Rx12+ "in12", 113 GND (power), 114 Tx12- "out12", 115 Tx12+ "out12", 116 GND (power), 117 Rx13- "in13", 118 Rx13+ "in13", 119 GND (power), 120 Tx13- "out13", 121 Tx13+ "out13", 122 GND (power), 123 Rx14- "in14", 124 Rx14+ "in14", 125 GND (power), 126 Tx14- "out14", 127 Tx14+ "out14", 128 GND (power), 129 Rx15- "in15", 130 Rx15+ "in15", 131 GND (power), 132 Tx15- "out15", 133 Tx15+ "out15", 134 GND (power), 135 TCLKC- "clk", 136 TCLKC+ "clk", 137 GND (power), 138 TCLKD- "clk", 139 TCLKD+ "clk", 140 GND (power), 141 Rx17- "in17", 142 Rx17+ "in17", 143 GND (power), 144 Tx17- "out17", 145 Tx17+ "out17", 146 GND (power), 147 Rx18- "in18", 148 Rx18+ "in18", 149 GND (power), 150 Tx18- "out18", 151 Tx18+ "out18", 152 GND (power), 153 Rx19- "in19", 154 Rx19+ "in19", 155 GND (power), 156 Tx19- "out19", 157 Tx19+ "out19", 158 GND (power), 159 Rx20- "in20", 160 Rx20+ "in20", 161 GND (power), 162 Tx20- "out20", 163 Tx20+ "out20", 164 GND (power), 165 TCK "in", 166 TMS "in", 167 TRST# "in", 168 TD0 "out", 169 TDI "in", 170 GND (power)
part A text: ESDSEG1; ESDSEG2; ESDSEG3

## CNAMC170MRD
designator K1, comment AMC Double Pcb Card edge  (no BOM)
AMC Double Card edge connector 170 pin for RTM; Price: 0
signal-integrity model Model Name (Model Description)
footprint CNAMCEDGEDR1 (AMC double edge connector standard for RTM)
part A pins: 1 GND (power), 2 PWR (power) "12V", 3 PS1# "presence1", 4 MP (power) "3V3", 5 GA0 "Gaddr0", 6 RSRVD6 "reserved", 7 GND (power), 8 RSRVD8 "reserved", 9 PWR (power) "12V", 10 GND (power), 11 Tx0+ "out0", 12 Tx0- "out0", 13 GND (power), 14 Rx0+ "in0", 15 Rx0- "in0", 16 GND (power), 17 GA1 "Gaddr1", 18 PWR (power) "12V", 19 GND (power), 20 Tx1+ "out1", 21 Tx1- "out1", 22 GND (power), 23 Rx1+ "in1", 24 Rx1- "in1", 25 GND (power), 26 GA2 "Gaddr2", 27 PWR (power) "12V", 28 GND (power), 29 Tx2+ "out2", 30 Tx2- "out2", 31 GND (power), 32 Rx2+ "in2", 33 Rx2- "in2", 34 GND (power), 35 Tx3+ "out3", 36 Tx3- "out3", 37 GND (power), 38 Rx3+ "in3", 39 Rx3- "in3", 40 GND (power), 41 ENABLE# "AMC enable", 42 PWR (power) "12V", 43 GND (power), 44 Tx4+ "out4", 45 T44- "out4", 46 GND (power), 47 Rx4+ "in4", 48 Rx4- "in4", 49 GND (power), 50 Tx5+ "out5", 51 Tx5- "out5", 52 GND (power), 53 Rx5+ "in5", 54 Rx5- "in5", 55 GND (power), 56 SCL_L "IPMB clock", 57 PWR (power) "12V", 58 GND (power), 59 Tx6+ "out6", 60 Tx6- "out6", 61 GND (power), 62 Rx6+ "in6", 63 Rx6- "in6", 64 GND (power), 65 Tx7+ "out7", 66 Tx7- "out7", 67 GND (power), 68 Rx7+ "in7", 69 Rx7- "in7", 70 GND (power), 71 SDA_L "IPMB data", 72 PWR (power) "12V", 73 GND (power), 74 TCLKA+ "clk", 75 TCLKA- "clk", 76 GND (power), 77 TCLKB+ "clk", 78 TCLKB- "clk", 79 GND (power), 80 FCLKA+ "clk", 81 FCLKA- "clk", 82 GND (power), 83 PS0# "presence0", 84 PWR (power) "12V", 85 GND (power), EP1, EP2, EP3, MH1 hidden
part B pins: 86 GND (power), 87 Rx8- "in8", 88 Rx8+ "in8", 89 GND (power), 90 Tx8- "out8", 91 Tx8+ "out8", 92 GND (power), 93 Rx9- "in9", 94 Rx9+ "in9", 95 GND (power), 96 Tx9- "out9", 97 Tx9+ "out9", 98 GND (power), 99 Rx10- "in10", 100 Rx10+ "in10", 101 GND (power), 102 Tx10- "out10", 103 Tx10+ "out10", 104 GND (power), 105 Rx11- "in11", 106 Rx11+ "in11", 107 GND (power), 108 Tx11- "out11", 109 Tx11+ "out11", 110 GND (power), 111 Rx12- "in12", 112 Rx12+ "in12", 113 GND (power), 114 Tx12- "out12", 115 Tx12+ "out12", 116 GND (power), 117 Rx13- "in13", 118 Rx13+ "in13", 119 GND (power), 120 Tx13- "out13", 121 Tx13+ "out13", 122 GND (power), 123 Rx14- "in14", 124 Rx14+ "in14", 125 GND (power), 126 Tx14- "out14", 127 Tx14+ "out14", 128 GND (power), 129 Rx15- "in15", 130 Rx15+ "in15", 131 GND (power), 132 Tx15- "out15", 133 Tx15+ "out15", 134 GND (power), 135 TCLKC- "clk", 136 TCLKC+ "clk", 137 GND (power), 138 TCLKD- "clk", 139 TCLKD+ "clk", 140 GND (power), 141 Rx17- "in17", 142 Rx17+ "in17", 143 GND (power), 144 Tx17- "out17", 145 Tx17+ "out17", 146 GND (power), 147 Rx18- "in18", 148 Rx18+ "in18", 149 GND (power), 150 Tx18- "out18", 151 Tx18+ "out18", 152 GND (power), 153 Rx19- "in19", 154 Rx19+ "in19", 155 GND (power), 156 Tx19- "out19", 157 Tx19+ "out19", 158 GND (power), 159 Rx20- "in20", 160 Rx20+ "in20", 161 GND (power), 162 Tx20- "out20", 163 Tx20+ "out20", 164 GND (power), 165 TCK "in", 166 TMS "in", 167 TRST# "in", 168 TD0 "out", 169 TDI "in", 170 GND (power)
part A text: ESDSEG1; ESDSEG2; ESDSEG3

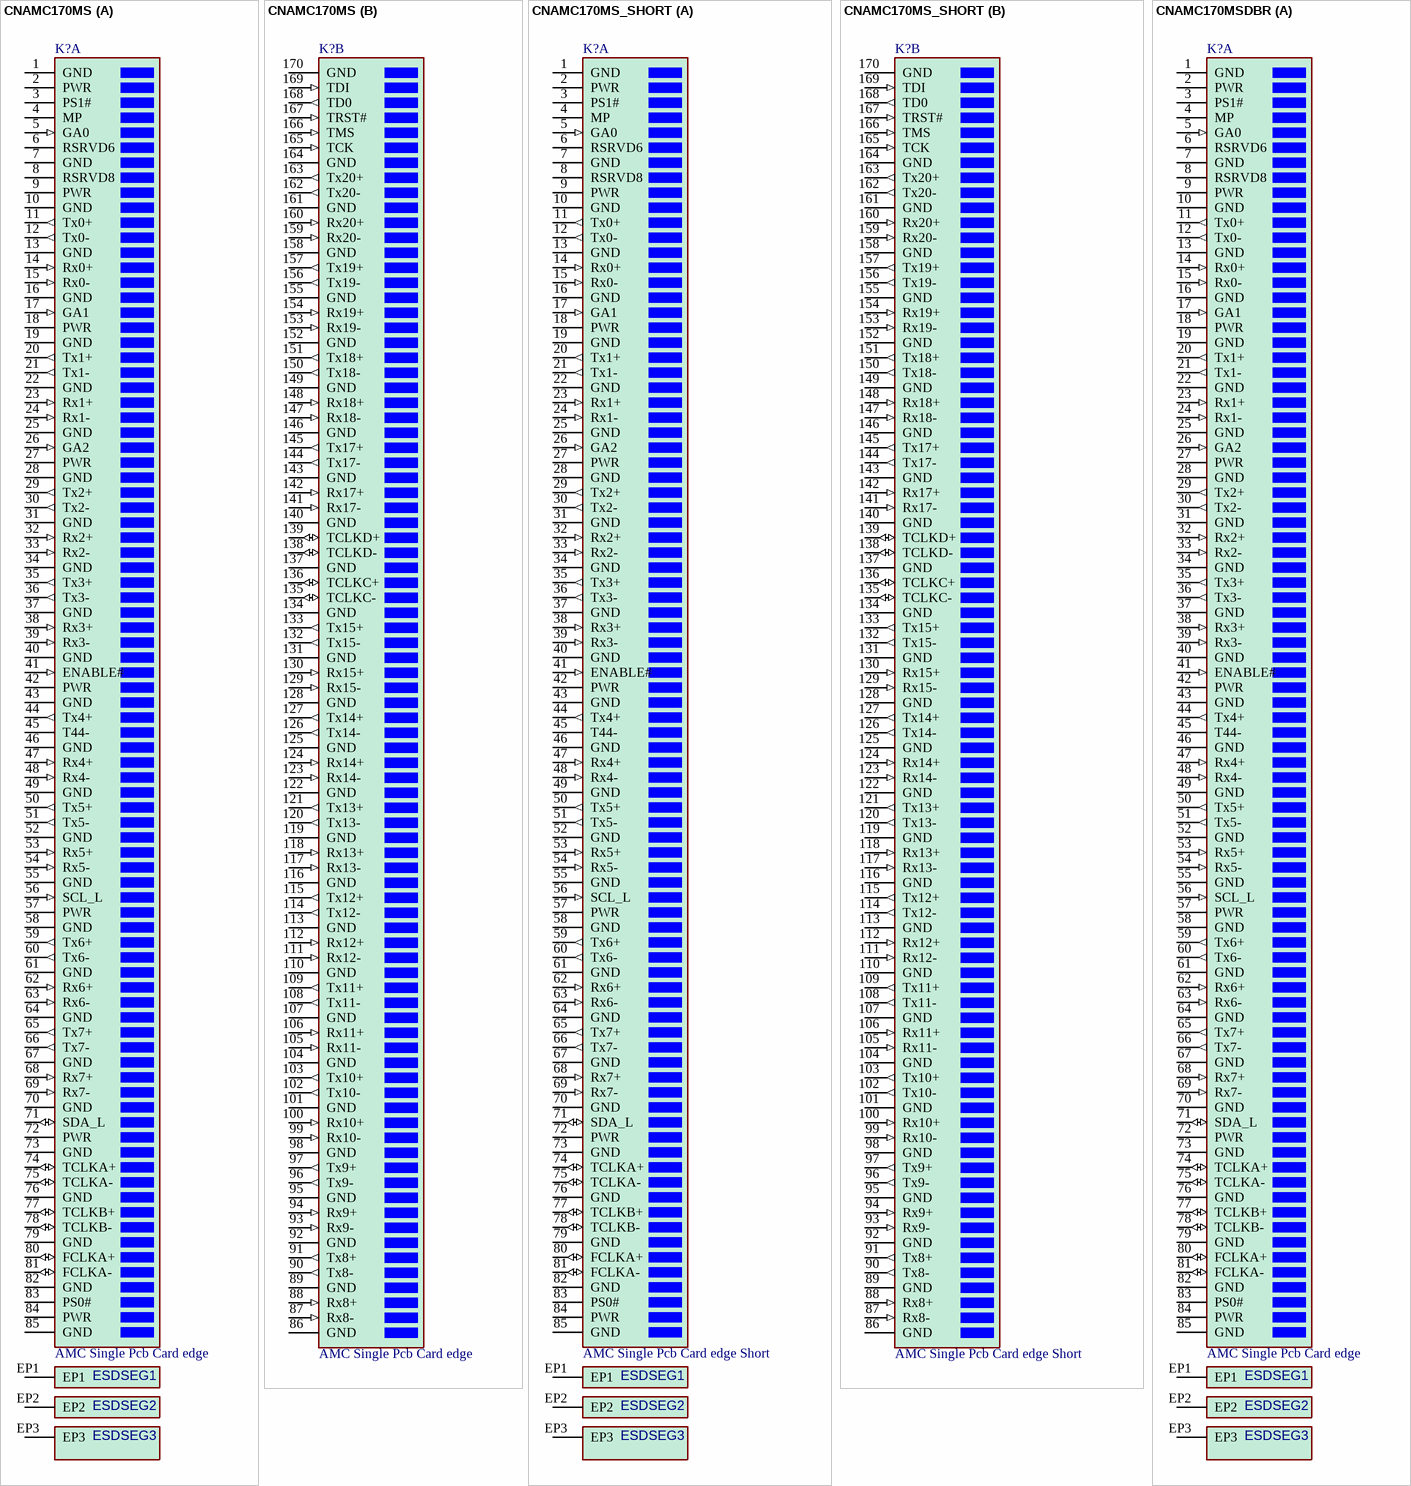
[diagram p5: symbols CNAMC170MS to CNAMC170MSDBR]

## CNAMC170MS
designator K?, comment AMC Single Pcb Card edge  (no BOM)
AMC Single Card edge connector 170 pin; Price: 0
signal-integrity model Model Name (Model Description)
footprint CNAMCEDGES1 (AMC single edge connector standard)
part A pins: 1 GND (power), 2 PWR (power) "12V", 3 PS1# "presence1", 4 MP (power) "3V3", 5 GA0 (in) "Gaddr0", 6 RSRVD6 "reserved", 7 GND (power), 8 RSRVD8 "reserved", 9 PWR (power) "12V", 10 GND (power), 11 Tx0+ (out) "out0", 12 Tx0- (out) "out0", 13 GND (power), 14 Rx0+ (in) "in0", 15 Rx0- (in) "in0", 16 GND (power), 17 GA1 (in) "Gaddr1", 18 PWR (power) "12V", 19 GND (power), 20 Tx1+ (out) "out1", 21 Tx1- (out) "out1", 22 GND (power), 23 Rx1+ (in) "in1", 24 Rx1- (in) "in1", 25 GND (power), 26 GA2 (in) "Gaddr2", 27 PWR (power) "12V", 28 GND (power), 29 Tx2+ (out) "out2", 30 Tx2- (out) "out2", 31 GND (power), 32 Rx2+ (in) "in2", 33 Rx2- (in) "in2", 34 GND (power), 35 Tx3+ (out) "out3", 36 Tx3- (out) "out3", 37 GND (power), 38 Rx3+ (in) "in3", 39 Rx3- (in) "in3", 40 GND (power), 41 ENABLE# (in) "AMC enable", 42 PWR (power) "12V", 43 GND (power), 44 Tx4+ (out) "out4", 45 T44- "out4", 46 GND (power), 47 Rx4+ (in) "in4", 48 Rx4- (in) "in4", 49 GND (power), 50 Tx5+ (out) "out5", 51 Tx5- (out) "out5", 52 GND (power), 53 Rx5+ (in) "in5", 54 Rx5- (in) "in5", 55 GND (power), 56 SCL_L (in) "IPMB clock", 57 PWR (power) "12V", 58 GND (power), 59 Tx6+ (out) "out6", 60 Tx6- (out) "out6", 61 GND (power), 62 Rx6+ (in) "in6", 63 Rx6- (in) "in6", 64 GND (power), 65 Tx7+ (out) "out7", 66 Tx7- (out) "out7", 67 GND (power), 68 Rx7+ (in) "in7", 69 Rx7- (in) "in7", 70 GND (power), 71 SDA_L (io) "IPMB data", 72 PWR (power) "12V", 73 GND (power), 74 TCLKA+ (io) "clk", 75 TCLKA- (io) "clk", 76 GND (power), 77 TCLKB+ (io) "clk", 78 TCLKB- (io) "clk", 79 GND (power), 80 FCLKA+ (io) "clk", 81 FCLKA- (io) "clk", 82 GND (power), 83 PS0# "presence0", 84 PWR (power) "12V", 85 GND (power), EP1, EP2, EP3
part B pins: 86 GND (power), 87 Rx8- (in) "in8", 88 Rx8+ (in) "in8", 89 GND (power), 90 Tx8- (out) "out8", 91 Tx8+ (out) "out8", 92 GND (power), 93 Rx9- (in) "in9", 94 Rx9+ (in) "in9", 95 GND (power), 96 Tx9- (out) "out9", 97 Tx9+ (out) "out9", 98 GND (power), 99 Rx10- (in) "in10", 100 Rx10+ (in) "in10", 101 GND (power), 102 Tx10- (out) "out10", 103 Tx10+ (out) "out10", 104 GND (power), 105 Rx11- (in) "in11", 106 Rx11+ (in) "in11", 107 GND (power), 108 Tx11- (out) "out11", 109 Tx11+ (out) "out11", 110 GND (power), 111 Rx12- (in) "in12", 112 Rx12+ (in) "in12", 113 GND (power), 114 Tx12- (out) "out12", 115 Tx12+ (out) "out12", 116 GND (power), 117 Rx13- (in) "in13", 118 Rx13+ (in) "in13", 119 GND (power), 120 Tx13- (out) "out13", 121 Tx13+ (out) "out13", 122 GND (power), 123 Rx14- (in) "in14", 124 Rx14+ (in) "in14", 125 GND (power), 126 Tx14- (out) "out14", 127 Tx14+ (out) "out14", 128 GND (power), 129 Rx15- (in) "in15", 130 Rx15+ (in) "in15", 131 GND (power), 132 Tx15- (out) "out15", 133 Tx15+ (out) "out15", 134 GND (power), 135 TCLKC- (io) "clk", 136 TCLKC+ (io) "clk", 137 GND (power), 138 TCLKD- (io) "clk", 139 TCLKD+ (io) "clk", 140 GND (power), 141 Rx17- (in) "in17", 142 Rx17+ (in) "in17", 143 GND (power), 144 Tx17- (out) "out17", 145 Tx17+ (out) "out17", 146 GND (power), 147 Rx18- (in) "in18", 148 Rx18+ (in) "in18", 149 GND (power), 150 Tx18- (out) "out18", 151 Tx18+ (out) "out18", 152 GND (power), 153 Rx19- (in) "in19", 154 Rx19+ (in) "in19", 155 GND (power), 156 Tx19- (out) "out19", 157 Tx19+ (out) "out19", 158 GND (power), 159 Rx20- (in) "in20", 160 Rx20+ (in) "in20", 161 GND (power), 162 Tx20- (out) "out20", 163 Tx20+ (out) "out20", 164 GND (power), 165 TCK (in) "in", 166 TMS (in) "in", 167 TRST# (in) "in", 168 TD0 (out) "out", 169 TDI (in) "in", 170 GND (power)
part A text: ESDSEG1; ESDSEG2; ESDSEG3

## CNAMC170MS_SHORT
designator K?, comment AMC Single Pcb Card edge Short  (no BOM)
AMC Single Card edge connector 170 pin Short; Price: 0
signal-integrity model Model Name (Model Description)
footprint CNAMCEDGES2DBR (AMC daughter board reversed single edge connector 1mm shorter)
part A pins: 1 GND (power), 2 PWR (power) "12V", 3 PS1# "presence1", 4 MP (power) "3V3", 5 GA0 (in) "Gaddr0", 6 RSRVD6 "reserved", 7 GND (power), 8 RSRVD8 "reserved", 9 PWR (power) "12V", 10 GND (power), 11 Tx0+ (out) "out0", 12 Tx0- (out) "out0", 13 GND (power), 14 Rx0+ (in) "in0", 15 Rx0- (in) "in0", 16 GND (power), 17 GA1 (in) "Gaddr1", 18 PWR (power) "12V", 19 GND (power), 20 Tx1+ (out) "out1", 21 Tx1- (out) "out1", 22 GND (power), 23 Rx1+ (in) "in1", 24 Rx1- (in) "in1", 25 GND (power), 26 GA2 (in) "Gaddr2", 27 PWR (power) "12V", 28 GND (power), 29 Tx2+ (out) "out2", 30 Tx2- (out) "out2", 31 GND (power), 32 Rx2+ (in) "in2", 33 Rx2- (in) "in2", 34 GND (power), 35 Tx3+ (out) "out3", 36 Tx3- (out) "out3", 37 GND (power), 38 Rx3+ (in) "in3", 39 Rx3- (in) "in3", 40 GND (power), 41 ENABLE# (in) "AMC enable", 42 PWR (power) "12V", 43 GND (power), 44 Tx4+ (out) "out4", 45 T44- "out4", 46 GND (power), 47 Rx4+ (in) "in4", 48 Rx4- (in) "in4", 49 GND (power), 50 Tx5+ (out) "out5", 51 Tx5- (out) "out5", 52 GND (power), 53 Rx5+ (in) "in5", 54 Rx5- (in) "in5", 55 GND (power), 56 SCL_L (in) "IPMB clock", 57 PWR (power) "12V", 58 GND (power), 59 Tx6+ (out) "out6", 60 Tx6- (out) "out6", 61 GND (power), 62 Rx6+ (in) "in6", 63 Rx6- (in) "in6", 64 GND (power), 65 Tx7+ (out) "out7", 66 Tx7- (out) "out7", 67 GND (power), 68 Rx7+ (in) "in7", 69 Rx7- (in) "in7", 70 GND (power), 71 SDA_L (io) "IPMB data", 72 PWR (power) "12V", 73 GND (power), 74 TCLKA+ (io) "clk", 75 TCLKA- (io) "clk", 76 GND (power), 77 TCLKB+ (io) "clk", 78 TCLKB- (io) "clk", 79 GND (power), 80 FCLKA+ (io) "clk", 81 FCLKA- (io) "clk", 82 GND (power), 83 PS0# "presence0", 84 PWR (power) "12V", 85 GND (power), EP1, EP2, EP3
part B pins: 86 GND (power), 87 Rx8- (in) "in8", 88 Rx8+ (in) "in8", 89 GND (power), 90 Tx8- (out) "out8", 91 Tx8+ (out) "out8", 92 GND (power), 93 Rx9- (in) "in9", 94 Rx9+ (in) "in9", 95 GND (power), 96 Tx9- (out) "out9", 97 Tx9+ (out) "out9", 98 GND (power), 99 Rx10- (in) "in10", 100 Rx10+ (in) "in10", 101 GND (power), 102 Tx10- (out) "out10", 103 Tx10+ (out) "out10", 104 GND (power), 105 Rx11- (in) "in11", 106 Rx11+ (in) "in11", 107 GND (power), 108 Tx11- (out) "out11", 109 Tx11+ (out) "out11", 110 GND (power), 111 Rx12- (in) "in12", 112 Rx12+ (in) "in12", 113 GND (power), 114 Tx12- (out) "out12", 115 Tx12+ (out) "out12", 116 GND (power), 117 Rx13- (in) "in13", 118 Rx13+ (in) "in13", 119 GND (power), 120 Tx13- (out) "out13", 121 Tx13+ (out) "out13", 122 GND (power), 123 Rx14- (in) "in14", 124 Rx14+ (in) "in14", 125 GND (power), 126 Tx14- (out) "out14", 127 Tx14+ (out) "out14", 128 GND (power), 129 Rx15- (in) "in15", 130 Rx15+ (in) "in15", 131 GND (power), 132 Tx15- (out) "out15", 133 Tx15+ (out) "out15", 134 GND (power), 135 TCLKC- (io) "clk", 136 TCLKC+ (io) "clk", 137 GND (power), 138 TCLKD- (io) "clk", 139 TCLKD+ (io) "clk", 140 GND (power), 141 Rx17- (in) "in17", 142 Rx17+ (in) "in17", 143 GND (power), 144 Tx17- (out) "out17", 145 Tx17+ (out) "out17", 146 GND (power), 147 Rx18- (in) "in18", 148 Rx18+ (in) "in18", 149 GND (power), 150 Tx18- (out) "out18", 151 Tx18+ (out) "out18", 152 GND (power), 153 Rx19- (in) "in19", 154 Rx19+ (in) "in19", 155 GND (power), 156 Tx19- (out) "out19", 157 Tx19+ (out) "out19", 158 GND (power), 159 Rx20- (in) "in20", 160 Rx20+ (in) "in20", 161 GND (power), 162 Tx20- (out) "out20", 163 Tx20+ (out) "out20", 164 GND (power), 165 TCK (in) "in", 166 TMS (in) "in", 167 TRST# (in) "in", 168 TD0 (out) "out", 169 TDI (in) "in", 170 GND (power)
part A text: ESDSEG1; ESDSEG2; ESDSEG3

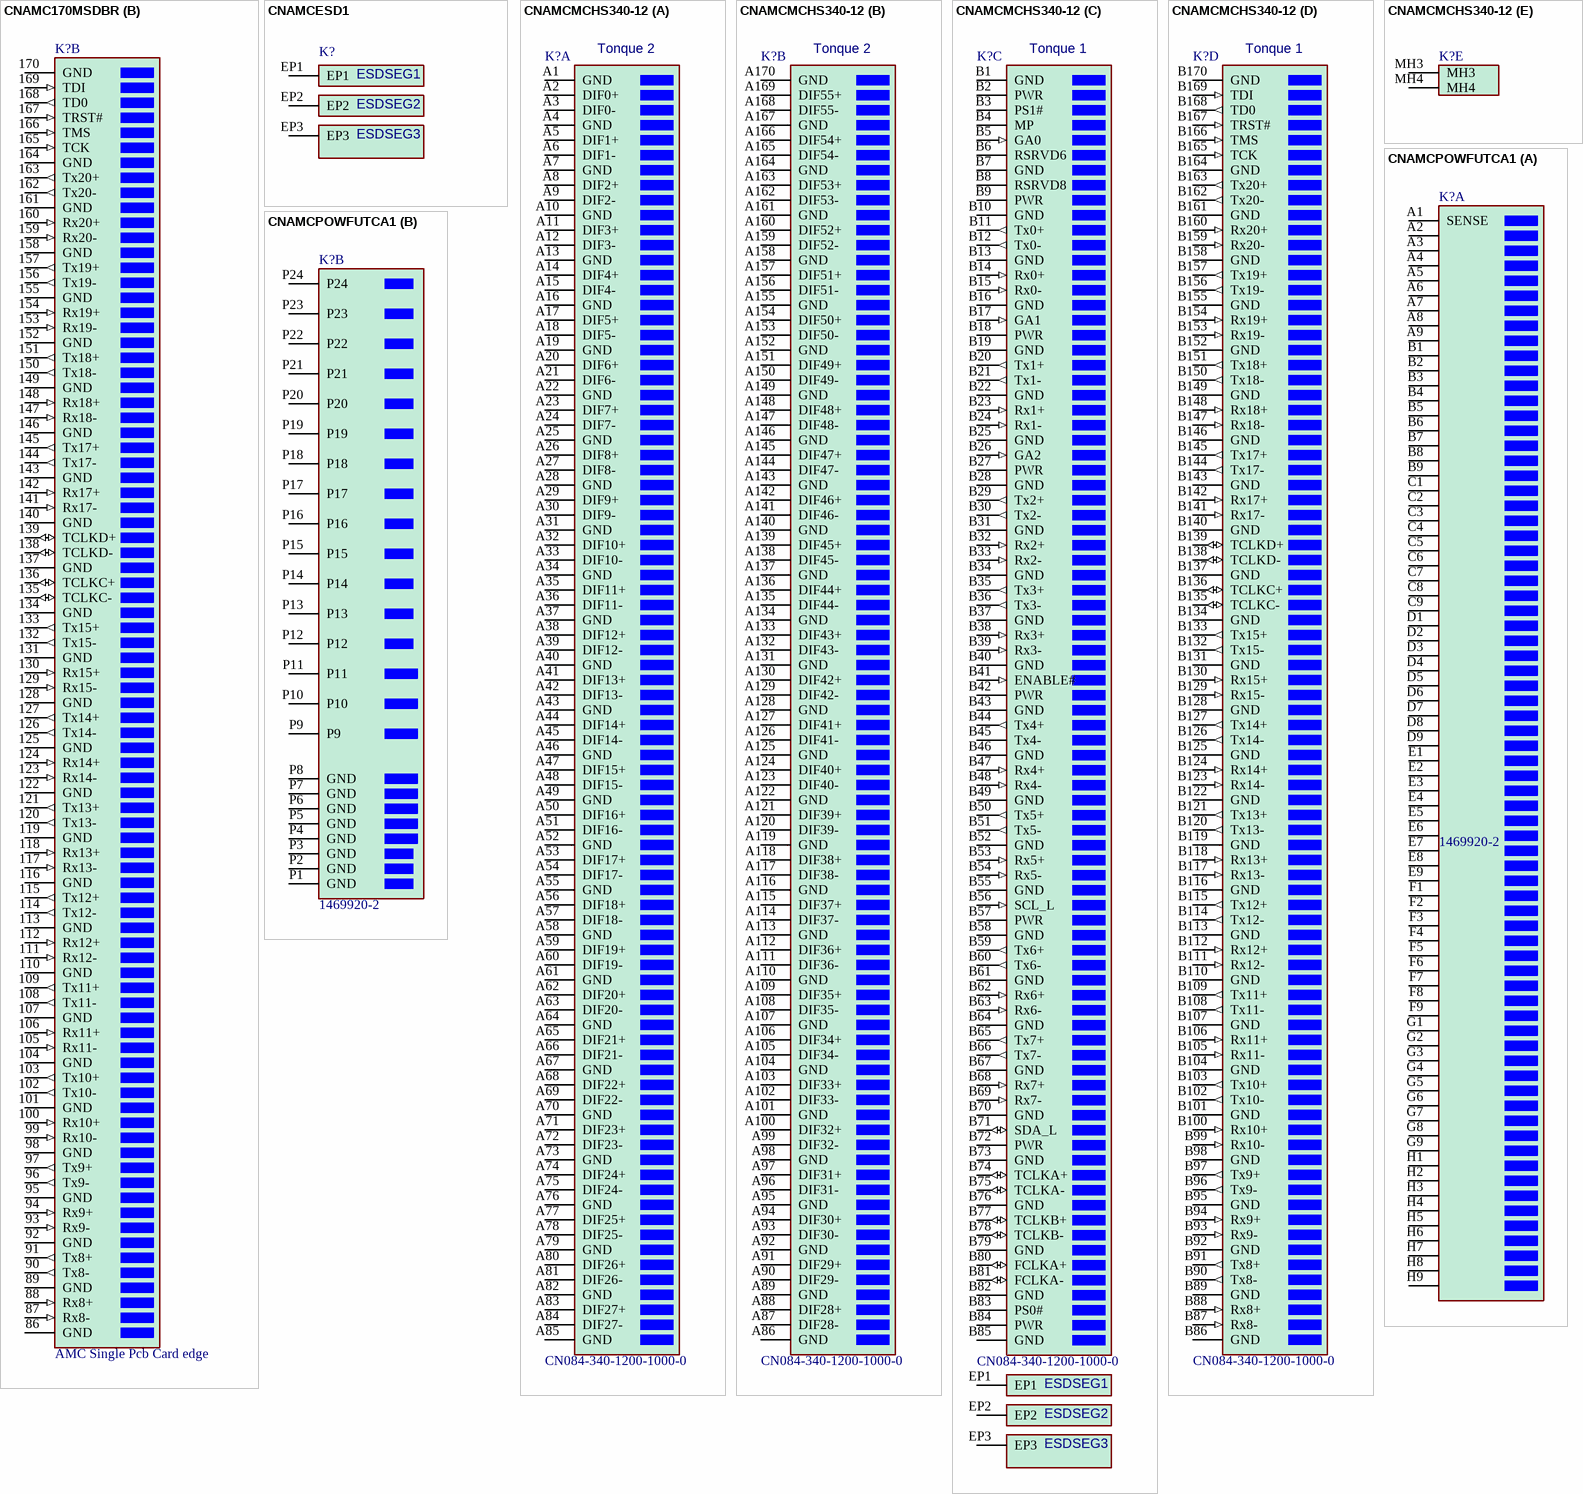
[diagram p6: symbols CNAMC170MSDBR to CNAMCPOWFUTCA1]